# Altium schematic symbol library KwantLib.SchLib: 323 symbols (part 1 of 3)
Pins are listed as number, name and electrical type; pins without a type are passive.

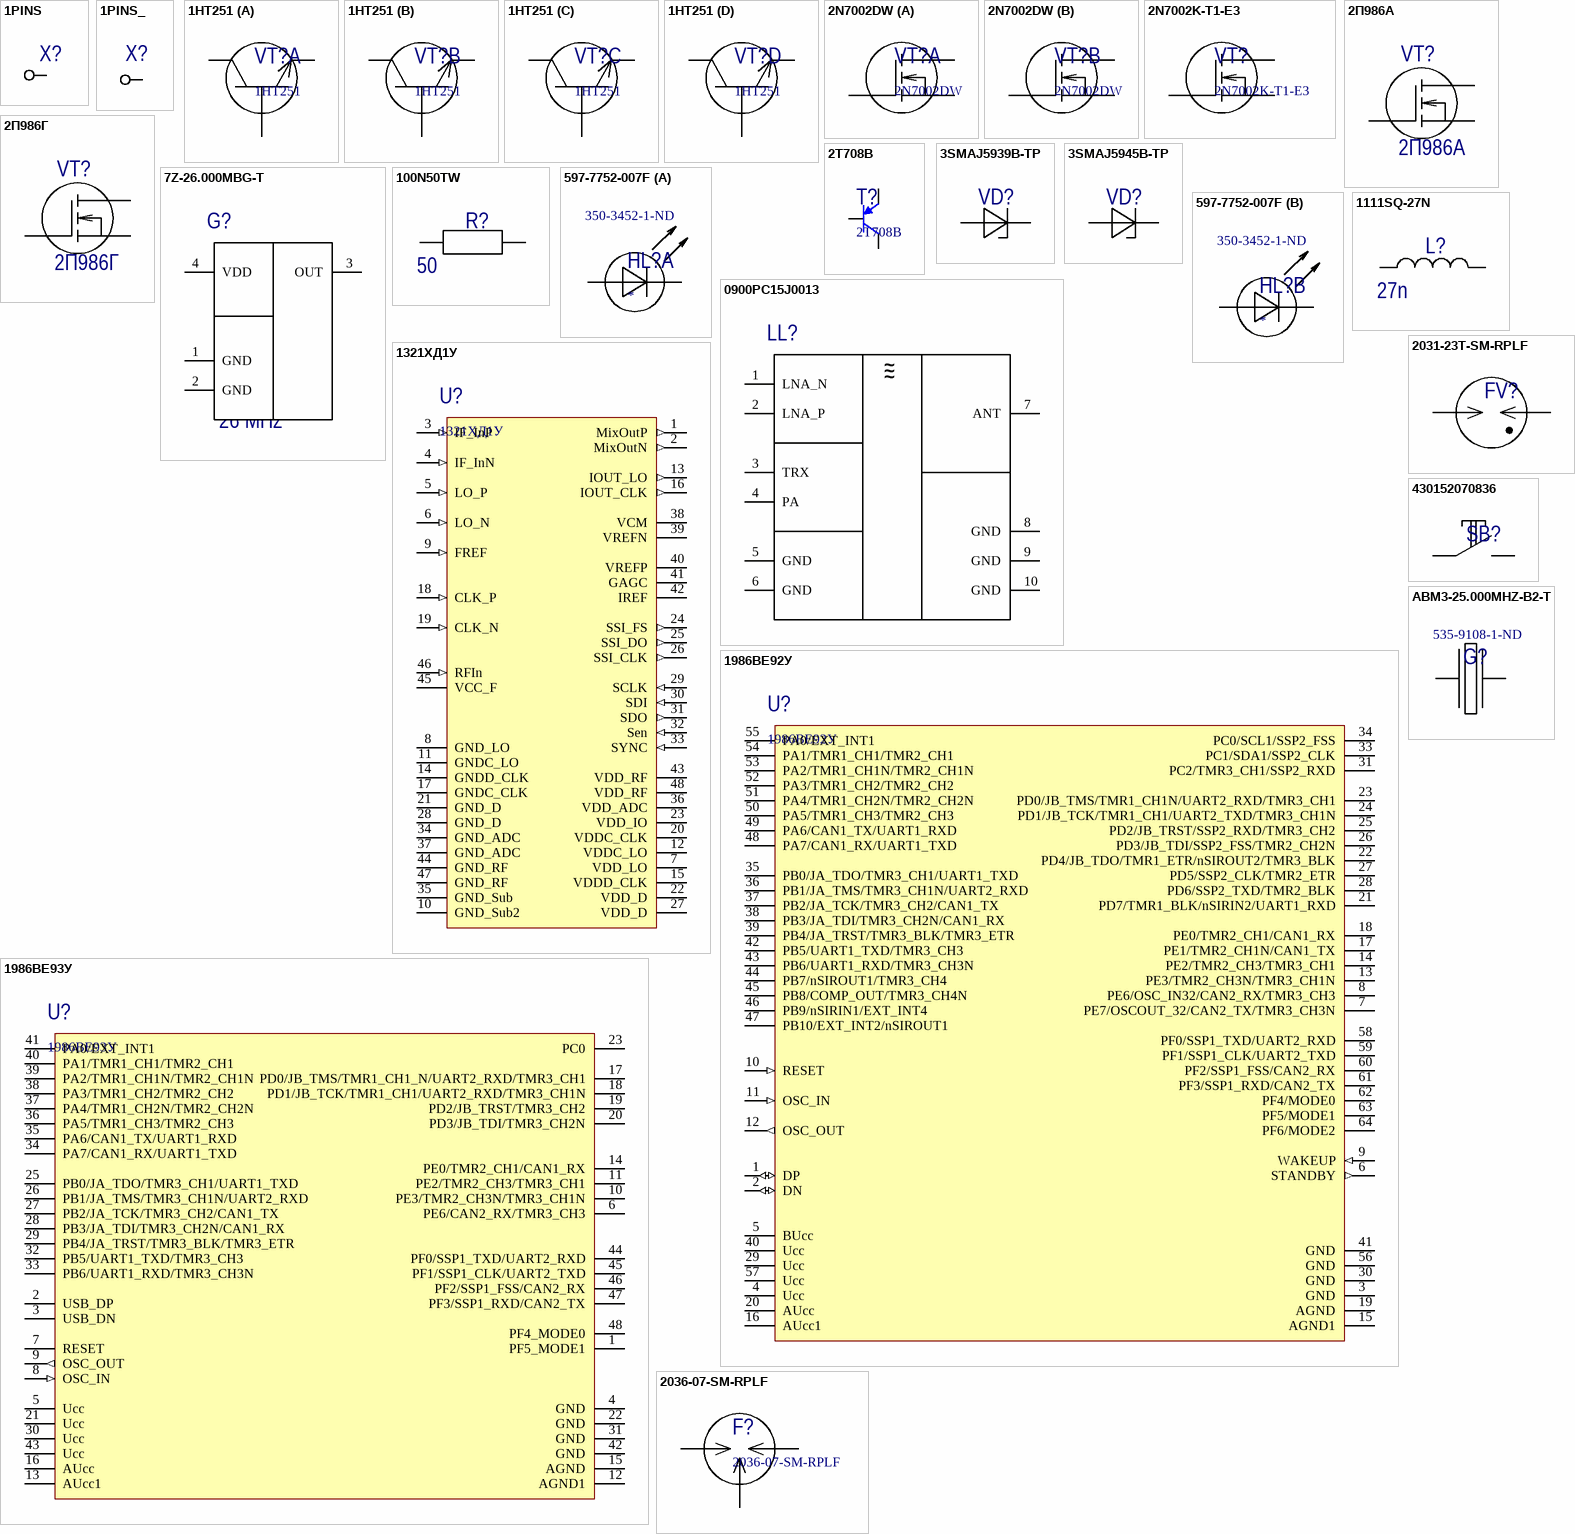
[diagram p0: symbols 1PINS to ABM3-25.000MHZ-B2-T]

## 1PINS
designator X?  (value not drawn)  (no BOM)
footprint 1Pin
pins: 1

## 1PINS_
designator X?  (value not drawn)
1PINS
footprint 1Pin
pins: 1

## 1НТ251
designator VT?
part A pins: 2 B, 12 E, 13 C
part B pins: 3 E, 4 C, 11 B
part C pins: 5 B, 9 E, 10 C
part D pins: 6 E, 7 C, 8 B

## 2N7002DW
designator VT?
Dual MOSFET N-channel; PartNo: *; Digikey: *; Supplier 1: Digi-Key; Supplier Part Number 1: 2N7002DWCT-ND
footprint SOT65P210X100-6N (SC70-6, SOT323, 6-Leads, Body 2.00x2.10mm, Pitch 0.65mm, IPC Medium Density)
part A pins: 3 D, 4 S, 5 G
part B pins: 1 S, 2 G, 6 D
1 alternate drawing of the same symbol

## 2N7002K-T1-E3
designator VT?
MOSFET N-channel; PartNo: *; Digikey: *; Supplier 1: Digi-Key; Supplier Part Number 1: 2N7002K-T1-E3TR-ND
footprint SOT95P232X100-3N (SOT23, 3-Leads, Body 2.92x2.32mm, Pitch 0.95mm, IPC Medium Density)
pins: 1 G, 2 S, 3 D
1 alternate drawing of the same symbol

## 2П986А
designator VT?
LDMOS N-channel; PartNo: *; Digikey: *
footprint КТ-55С-1
pins: 1 G, 3 D
1 alternate drawing of the same symbol

## 2П986Г
designator VT?
LDMOS N-channel; PartNo: *; Digikey: *
footprint КТ-57A-1
pins: 1 G, 3 D
1 alternate drawing of the same symbol

## 2Т708В
designator T?
Транзистор PNP; Производитель: ЗАО "ГРУППА КРЕМНИЙ ЭЛ"
footprint ТО-39 (Транзистор)
pins: 1 B, 2 C, 3 E

## 3SMAJ5939B-TP
designator VD?  (value not drawn)
DIODE ZENER 39V 3W DO214AC; Manufacturer: MCC; Tolerance: 5%; Impedance: 45R; Max Reverse Leakage Current: 1uA; Element Configuration: Single; Zener Current: 76mA; Supplier 1: Digi-Key; Manufacturer Part Number: 3SMAJ5939B-TP; Stock 1: 11870; Pricing 1: 1=0.56, 10=0.441, 25=0.372, 100=0.3028, 250=0.2509, 500=0.2076, 1000=0.1557, 2500=0.1428 (USD); Mount: Surface Mount; Case/Package: SMA; Number of Pins: 2; Min Operating Temperature: -55°C; Max Operating Temperature: 150°C; Package Quantity: 1; Packaging: Tape and Reel; Zener Voltage: 39V; Max Power Dissipation: 3W; Voltage Tolerance: 5%; Power Dissipation: 3W; ComponentLink1URL: http://www.mccsemi.com/up_pdf/3SMAJ5913B~3SMAJ5943B(DO-214AC).pdf?src-supplier=Digi-Key; ComponentLink1Description: http://www.mccsemi.com/up_pdf/3SMAJ5913B~3SMAJ5943B(DO-214AC).pdf?src-supplier=Digi-Key; Supplier Part Number 1: 3SMAJ5939B-TPMSCT-ND
footprint DIOM4326X26N (Molded Diode, 2-Leads, Body 4,30x2,61mm, IPC Medium Density)
pins: 1, 2

## 3SMAJ5945B-TP
designator VD?  (value not drawn)
DIODE ZENER 68V 3W DO214AC; Manufacturer: MCC; Tolerance: 5%; Impedance: 120R; Supplier 1: Digi-Key; Manufacturer Part Number: 3SMAJ5945B-TP; Stock 1: 9795; Pricing 1: 1=0.56, 10=0.441, 25=0.372, 100=0.3028, 250=0.2509, 500=0.2076, 1000=0.1557, 2500=0.1428 (USD); Mount: Surface Mount; Min Operating Temperature: -55°C; Max Operating Temperature: 150°C; Packaging: Tape and Reel; Package Quantity: 1; Zener Voltage: 68V; Max Power Dissipation: 3W; ComponentLink1URL: http://www.mccsemi.com/up_pdf/3SMAJ5913B~3SMAJ5956B(DO-214AC).pdf?src-supplier=Digi-Key; ComponentLink1Description: http://www.mccsemi.com/up_pdf/3SMAJ5913B~3SMAJ5956B(DO-214AC).pdf?src-supplier=Digi-Key; Supplier Part Number 1: 3SMAJ5945B-TPMSCT-ND
footprint DIOM4326X26N (Molded Diode, 2-Leads, Body 4,30x2,61mm, IPC Medium Density)
pins: 1, 2

## 7Z-26.000MBG-T
designator G?  value 26 MHz  (hidden comment: 7Z-26.000MBG-T)
TCXO 26 MHz; PartNo: 7Z-26.000MBG-T; Supplier 1: Digi-Key; Supplier Part Number 1: 887-1620-1-ND
footprint 7Z TCXO (Footprint not found)
pins: 1 GND, 2 GND, 3 OUT, 4 VDD

## 100N50TW
designator R?  value 50  (hidden comment: 100N50TW)
Flanged Termination 100 W, 50 Ohm; Type: *; PartNo: *; Supplier 1: *; Supplier Part Number 1: *
footprint 100N50TW (Резистор 50 Ом СВЧ)
pins: 1

## 597-7752-007F
designator HL?  Supplier Part Number 1: 350-3452-1-ND
Светодиод двухцветный; PartNo: *; Digikey: *; Supplier 1: Digi-Key
footprint PLCC4-LED
part A pins: 1 A1, 2 C1
part B pins: 3 A2, 4 C2

## 0900PC15J0013
designator LL?  (value not drawn)
CC12xx balun; PartNo: 0900PC15J0013; Supplier 1: Digi-Key; Supplier Part Number 1: *
footprint 0900PC15J0013
pins: 1 LNA_N, 2 LNA_P, 3 TRX, 4 PA, 5 GND, 6 GND, 7 ANT, 8 GND, 9 GND, 10 GND
text: ~

## 1111SQ-27N
designator L?  value 27n  (hidden comment: 1111SQ-27N)
Square Air Core Inductor; Tolerance: ±5%; Current: *; PartNo: 1111SQ-27N; Supplier 1: Digi-Key
footprint 1111SQ-27n (Square Air Core Inductor - 27 nH)
pins: 1, 2

## 1321ХД1У
designator U?
Микросхема РЧ/ПЧ приемника; Производитель: АО "ПКК Миландр"
footprint 5142.48-A
pins: 1 MixOutP (out), 2 MixOutN (out), 3 IF_InP (in), 4 IF_InN (in), 5 LO_P (in), 6 LO_N (in), 7 VDD_LO (power), 8 GND_LO (power), 9 FREF (in), 10 GND_Sub2 (power), 11 GNDC_LO (power), 12 VDDC_LO (power), 13 IOUT_LO (out), 14 GNDD_CLK (power), 15 VDDD_CLK (power), 16 IOUT_CLK (out), 17 GNDC_CLK (power), 18 CLK_P (in), 19 CLK_N (in), 20 VDDC_CLK (power), 21 GND_D (power), 22 VDD_D (power), 23 VDD_IO (power), 24 SSI_FS (out), 25 SSI_DO (out), 26 SSI_CLK (out), 27 VDD_D (power), 28 GND_D (power), 29 SCLK (in), 30 SDI (in), 31 SDO (out), 32 Sen (in), 33 SYNC (in), 34 GND_ADC (power), 35 GND_Sub (power), 36 VDD_ADC (power), 37 GND_ADC (power), 38 VCM, 39 VREFN, 40 VREFP, 41 GAGC, 42 IREF, 43 VDD_RF (power), 44 GND_RF (power), 45 VCC_F, 46 RFIn (in), 47 GND_RF (power), 48 VDD_RF (power)

## 1986ВЕ92У
designator U?
Микросхема 32-разрядного однокристального микро-ЭВМ с памятью Flash-типа; Производитель: АО "ПКК Миландр"
footprint Н18.64-1В
pins: 1 DP (io), 2 DN (io), 3 GND (power), 4 Ucc (power), 5 BUcc (power), 6 STANDBY (out), 7 PE7/OSCOUT_32/CAN2_TX/TMR3_CH3N, 8 PE6/OSC_IN32/CAN2_RX/TMR3_CH3, 9 WAKEUP (in), 10 RESET (in), 11 OSC_IN (in), 12 OSC_OUT (out), 13 PE3/TMR2_CH3N/TMR3_CH1N, 14 PE2/TMR2_CH3/TMR3_CH1, 15 AGND1 (power), 16 AUcc1 (power), 17 PE1/TMR2_CH1N/CAN1_TX, 18 PE0/TMR2_CH1/CAN1_RX, 19 AGND (power), 20 AUcc (power), 21 PD7/TMR1_BLK/nSIRIN2/UART1_RXD, 22 PD4/JB_TDO/TMR1_ETR/nSIROUT2/TMR3_BLK, 23 PD0/JB_TMS/TMR1_CH1N/UART2_RXD/TMR3_CH1, 24 PD1/JB_TCK/TMR1_CH1/UART2_TXD/TMR3_CH1N, 25 PD2/JB_TRST/SSP2_RXD/TMR3_CH2, 26 PD3/JB_TDI/SSP2_FSS/TMR2_CH2N, 27 PD5/SSP2_CLK/TMR2_ETR, 28 PD6/SSP2_TXD/TMR2_BLK, 29 Ucc (power), 30 GND (power), 31 PC2/TMR3_CH1/SSP2_RXD, 32 NC hidden, 33 PC1/SDA1/SSP2_CLK, 34 PC0/SCL1/SSP2_FSS, 35 PB0/JA_TDO/TMR3_CH1/UART1_TXD, 36 PB1/JA_TMS/TMR3_CH1N/UART2_RXD, 37 PB2/JA_TCK/TMR3_CH2/CAN1_TX, 38 PB3/JA_TDI/TMR3_CH2N/CAN1_RX, 39 PB4/JA_TRST/TMR3_BLK/TMR3_ETR, 40 Ucc (power), 41 GND (power), 42 PB5/UART1_TXD/TMR3_CH3, 43 PB6/UART1_RXD/TMR3_CH3N, 44 PB7/nSIROUT1/TMR3_CH4, 45 PB8/COMP_OUT/TMR3_CH4N, 46 PB9/nSIRIN1/EXT_INT4, 47 PB10/EXT_INT2/nSIROUT1, 48 PA7/CAN1_RX/UART1_TXD, 49 PA6/CAN1_TX/UART1_RXD, 50 PA5/TMR1_CH3/TMR2_CH3, 51 PA4/TMR1_CH2N/TMR2_CH2N, 52 PA3/TMR1_CH2/TMR2_CH2, 53 PA2/TMR1_CH1N/TMR2_CH1N, 54 PA1/TMR1_CH1/TMR2_CH1, 55 PA0/EXT_INT1, 56 GND (power), 57 Ucc (power), 58 PF0/SSP1_TXD/UART2_RXD, 59 PF1/SSP1_CLK/UART2_TXD, 60 PF2/SSP1_FSS/CAN2_RX, 61 PF3/SSP1_RXD/CAN2_TX, 62 PF4/MODE0, 63 PF5/MODE1, 64 PF6/MODE2

## 1986ВЕ93У
designator U?
Микросхема 32-разрядного однокристального микро-ЭВМ с памятью Flash-типа; Производитель: АО "ПКК Миландр"
footprint Н16.48-1В
pins: 1 PF5_MODE1, 2 USB_DP, 3 USB_DN, 4 GND (power), 5 Ucc (power), 6 PE6/CAN2_RX/TMR3_CH3, 7 RESET, 8 OSC_IN (in), 9 OSC_OUT (out), 10 PE3/TMR2_CH3N/TMR3_CH1N, 11 PE2/TMR2_CH3/TMR3_CH1, 12 AGND1 (power), 13 AUcc1 (power), 14 PE0/TMR2_CH1/CAN1_RX, 15 AGND (power), 16 AUcc (power), 17 PD0/JB_TMS/TMR1_CH1_N/UART2_RXD/TMR3_CH1, 18 PD1/JB_TCK/TMR1_CH1/UART2_RXD/TMR3_CH1N, 19 PD2/JB_TRST/TMR3_CH2, 20 PD3/JB_TDI/TMR3_CH2N, 21 Ucc (power), 22 GND (power), 23 PC0, 24 NC hidden, 25 PB0/JA_TDO/TMR3_CH1/UART1_TXD, 26 PB1/JA_TMS/TMR3_CH1N/UART2_RXD, 27 PB2/JA_TCK/TMR3_CH2/CAN1_TX, 28 PB3/JA_TDI/TMR3_CH2N/CAN1_RX, 29 PB4/JA_TRST/TMR3_BLK/TMR3_ETR, 30 Ucc (power), 31 GND (power), 32 PB5/UART1_TXD/TMR3_CH3, 33 PB6/UART1_RXD/TMR3_CH3N, 34 PA7/CAN1_RX/UART1_TXD, 35 PA6/CAN1_TX/UART1_RXD, 36 PA5/TMR1_CH3/TMR2_CH3, 37 PA4/TMR1_CH2N/TMR2_CH2N, 38 PA3/TMR1_CH2/TMR2_CH2, 39 PA2/TMR1_CH1N/TMR2_CH1N, 40 PA1/TMR1_CH1/TMR2_CH1, 41 PA0/EXT_INT1, 42 GND (power), 43 Ucc (power), 44 PF0/SSP1_TXD/UART2_RXD, 45 PF1/SSP1_CLK/UART2_TXD, 46 PF2/SSP1_FSS/CAN2_RX, 47 PF3/SSP1_RXD/CAN2_TX, 48 PF4_MODE0

## 2031-23T-SM-RPLF
designator FV?  (value not drawn)
Разрядник 185В; PartNo: 2031-23T-SM-RPLF; Digikey: *; Supplier 1: Digi-Key; Supplier Part Number 1: 2031-23T-SM-RPLFCT-ND
footprint GDT-2031 (Bourns GDT 2031)
pins: 1, 2

## 2036-07-SM-RPLF
designator F?
Разрядник 75В; PartNo: 2036-07-SM-RPLF; Digikey: *; Supplier 1: Digi-Key; Supplier Part Number 1: 2036-07-SM-RPLFCT-ND
footprint GDT-2036 (Bourns GDT 2036)
pins: 1, 2, 3

## 430152070836
designator SB?  (value not drawn)
Кнопка Wurth
footprint 4301x20708x6 (6*6mm vertical type, SMD, height 7.0mm, white actuator, 260gf, T&R)
pins: 1, 2

## ABM3-25.000MHZ-B2-T
designator G?  Supplier Part Number 1: 535-9108-1-ND  (hidden comment: ABM3-25.000MHZ-B2-T)
Кварц 25 МГц; PartNo: *; Digikey: *; Supplier 1: Digi-Key
footprint ABM3
pins: 1, 2

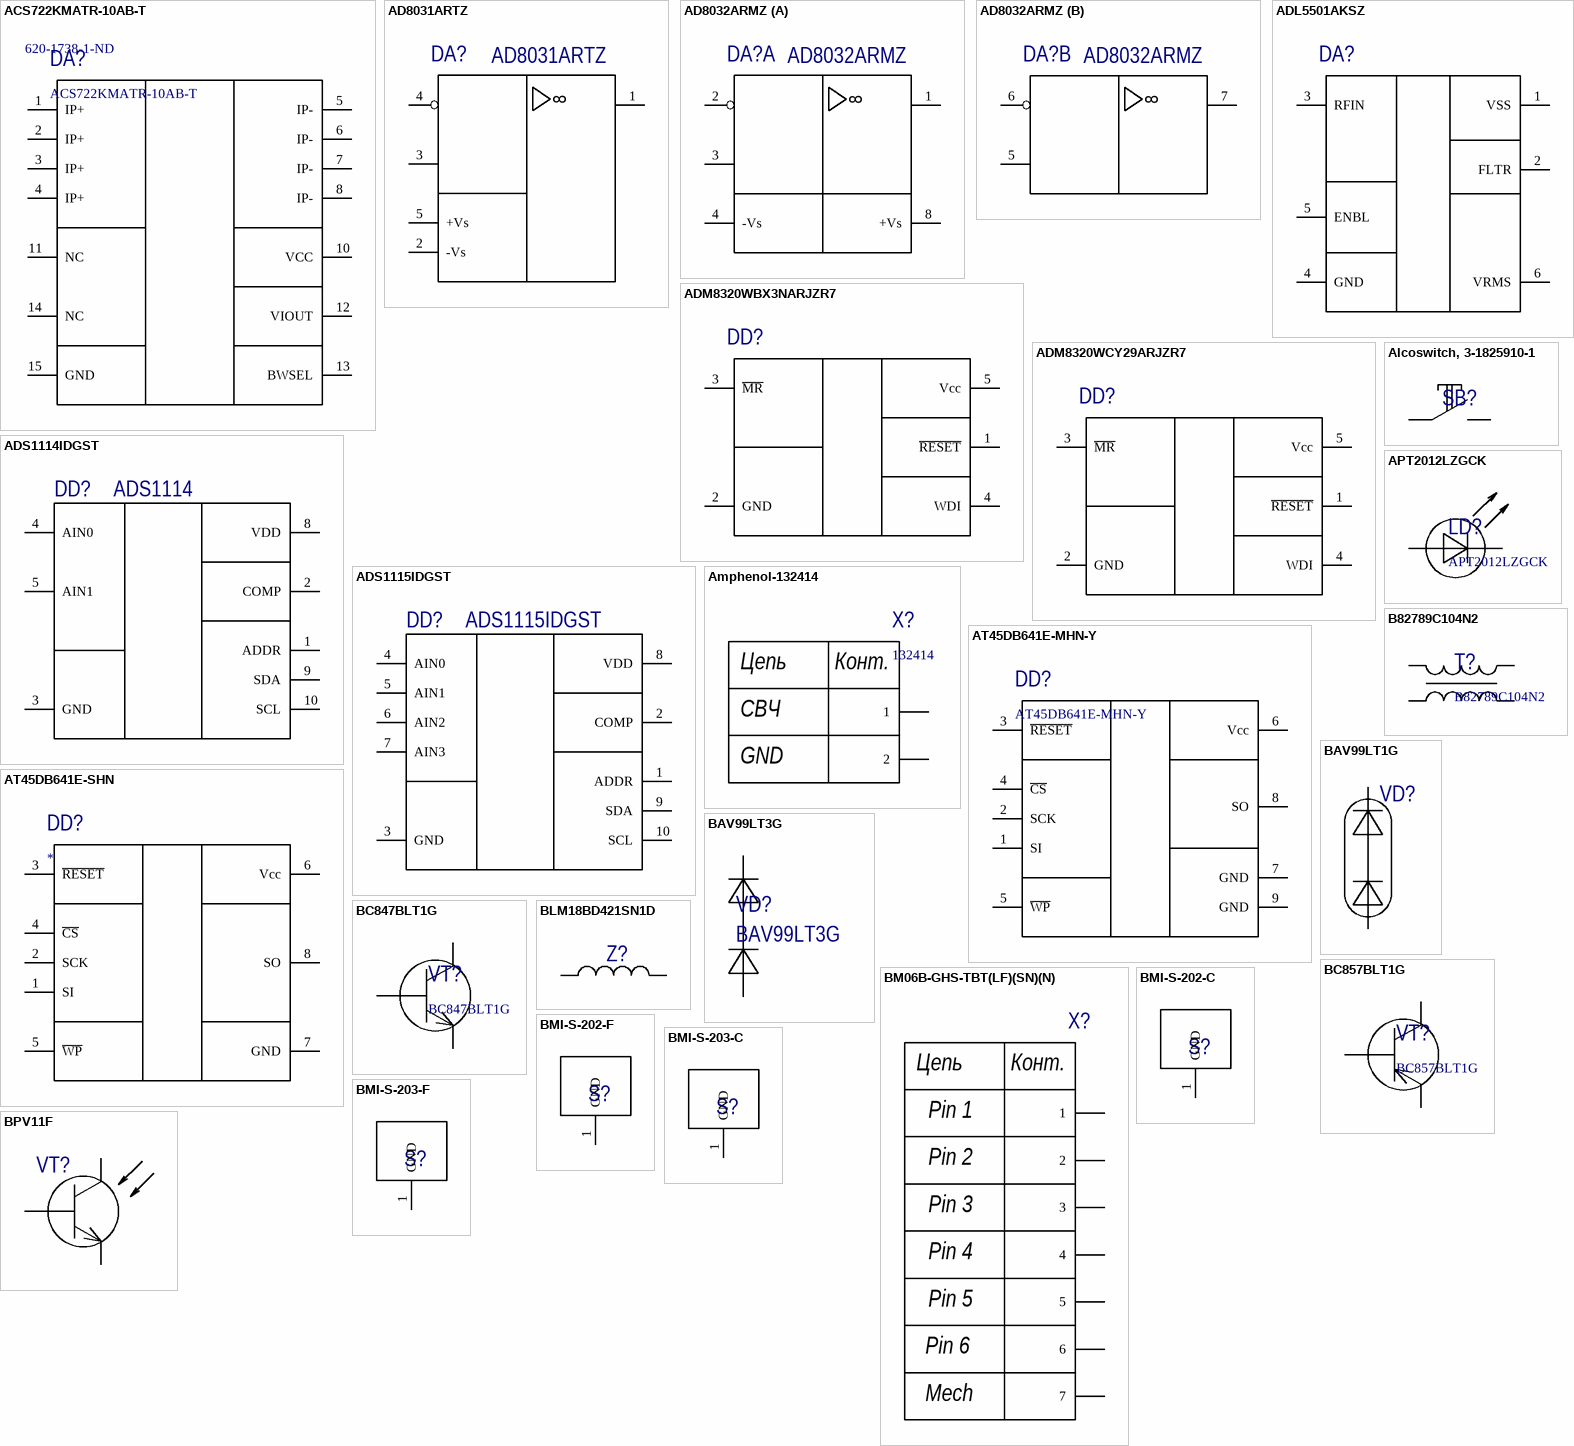
[diagram p1: symbols ACS722KMATR-10AB-T to BPV11F]

## ACS722KMATR-10AB-T
designator DA?  Supplier Part Number 1: 620-1738-1-ND
Current sensor 10A; PartNo: *; Digikey: *; Supplier 1: Digi-Key
footprint SOIC127P1030X265-16N (SOIC, 16-Leads, Body 10.30x7.50mm, Pitch 1.27mm, IPC Medium Density)
pins: 1 IP+, 2 IP+, 3 IP+, 4 IP+, 5 IP-, 6 IP-, 7 IP-, 8 IP-, 10 VCC, 11 NC, 12 VIOUT, 13 BWSEL, 14 NC, 15 GND

## AD8031ARTZ
designator DA?
RtR micropower OpAmp; PartNo: *; Supplier 1: Digi-Key; Supplier Part Number 1: AD8031ARTZ-REEL7CT-ND
footprint SOT95P280X100-5N (SOT23, 5-Leads, Body 2.90x2.80mm, Pitch 0.95mm, IPC Medium Density)
pins: 1 OUT, 2 -Vs, 3 IN+, 4 IN-, 5 +Vs
text: 8

## AD8032ARMZ
designator DA?
RtR micropower OpAmp; PartNo: *; Supplier 1: Digi-Key; Supplier Part Number 1: AD8032ARMZ-REEL7CT-ND
footprint TSOP65P490X86-8N (TSOP, 8-Leads, Body 3.00x3.00mm, Pitch 0.65mm, IPC Medium Density)
part A pins: 1 OUT, 2 1IN-, 3 1IN+, 4 -Vs, 8 +Vs
part B pins: 5 2IN+, 6 2IN-, 7 2OUT

## ADL5501AKSZ
designator DA?, comment ADL5501AKSZ-R7  (value not drawn)
50 MHz - 6 GHz power meter; PartNo: ADL5501AKSZ-R7; Supplier 1: Digi-Key; Supplier Part Number 1: ADL5501AKSZ-R7CT-ND
footprint SOT65P210X100-6N (SC70-6, SOT323, 6-Leads, Body 2.00x2.10mm, Pitch 0.65mm, IPC Medium Density)
pins: 1 VSS (power), 2 FLTR, 3 RFIN, 4 GND (power), 5 ENBL, 6 VRMS

## ADM8320WBX3NARJZR7
designator DD?  (value not drawn)
Supervisor with Watchdog. Reset - 28 ms, Watchdog 102 ms. Voltage 3.18 V.
footprint SOT95P280X145-5N (SOT23, 5-Leads, Body 2.90x2.80mm, Pitch 0.95mm, IPC Medium Density)
pins: 1 ~{RESET}, 2 GND, 3 ~{MR}, 4 WDI, 5 Vcc

## ADM8320WCY29ARJZR7
designator DD?  (value not drawn)
Supervisor with Watchdog. Reset - 200 ms, Watchdog 1.6 s. Voltage 2.9 V.
footprint SOT95P280X145-5N (SOT23, 5-Leads, Body 2.90x2.80mm, Pitch 0.95mm, IPC Medium Density)
pins: 1 ~{RESET}, 2 GND, 3 ~{MR}, 4 WDI, 5 Vcc

## ADS1114IDGST
designator DD?, comment ADS1114
PartNo: ADS1114IDGST; Supplier 1: Digi-Key; Supplier Part Number 1: 296-24932-1-ND
footprint TSSOP50P490X110-10N (TSSOP, 10-Leads, Body 3.00x3.00mm, Pitch 0.50mm, IPC Medium Density)
pins: 1 ADDR, 2 COMP, 3 GND, 4 AIN0, 5 AIN1, 8 VDD, 9 SDA, 10 SCL

## ADS1115IDGST
designator DD?
PartNo: ADS1115IDGST; Supplier 1: Digi-Key; Supplier Part Number 1: 296-24934-1-ND
pins: 1 ADDR, 2 COMP, 3 GND, 4 AIN0, 5 AIN1, 6 AIN2, 7 AIN3, 8 VDD, 9 SDA, 10 SCL

## Alcoswitch, 3-1825910-1
designator SB?, comment 3-1825910-1  (value not drawn)
Alcoswitch, 6x6 mm SMD; PartNo: 3-1825910-1; Supplier 1: Digi-Key; Supplier Part Number 1: 450-1643-ND
footprint Alcoswitch, 3-1825910-1 (6*6mm vertical type, THT, height 17 mm, 160gf, Bulk)
pins: 1, 2

## Amphenol-132414
designator X?, comment 132414
SMA edge connector; PartNo: 132414; Supplier 1: Digi-Key; Supplier Part Number 1: ACX1917-ND; Type: Edge
footprint Amphenol-132414 (SMA Edge connector)
pins: 1, 2
text: Цепь; Конт.; СВЧ; GND

## APT2012LZGCK
designator LD?
LED SMD; PartNo: APT2012LZGCK; Supplier 1: Digi-Key; Supplier Part Number 1: 754-1939-1-ND
footprint LED2012N (Chip Diode, 2-Leads, Body 2.00x1.25mm, IPC Medium Density)
pins: 1, 2
1 alternate drawing of the same symbol

## AT45DB641E-MHN-Y
designator DD?
64-Mbit DataFlash; PartNo: AT45DB641E-MHN-Y; Digikey: *; Supplier 1: Digi-Key; Supplier Part Number 1: 1265-1227-ND
footprint QFN127P600X500X60_HS-9N (QFN, 8-Leads, Body 6.00x5.00mm, Pitch 1.27mm, Thermal Pad 3.40x4.00mm, IPC Medium Density)
pins: 1 SI, 2 SCK, 3 ~{RESET}, 4 ~{CS}, 5 ~{WP}, 6 Vcc (power), 7 GND (power), 8 SO, 9 GND (power)

## AT45DB641E-SHN
designator DD?
64-Mbit DataFlash; PartNo: *; Digikey: *; Supplier 1: Digi-Key; Supplier Part Number 1: AT45DB641E-SHN-TCT-ND
footprint SOIC127P800X200-8N (SOIC, 8-Leads, Body 5.34x5.29mm, Pitch 1.27mm, IPC Medium Density)
pins: 1 SI, 2 SCK, 3 ~{RESET}, 4 ~{CS}, 5 ~{WP}, 6 Vcc (power), 7 GND (power), 8 SO

## B82789C104N2
designator T?
Фильтр CAN; PartNo: B82789C104N2; Digikey: *; Supplier 1: Digi-Key; Supplier Part Number 1: 495-5751-1-ND
footprint SIMDAD (Data and signal line choke)
pins: 1, 2, 3, 4

## BAV99LT1G
designator VD?  (value not drawn)
Series Diodes; РКД Наименование: BAV99LT1G сдвоенный переключательный диод; PartNo: BAV99LT1G; Supplier 1: Digi-Key; Supplier Part Number 1: BAV99LT1GOSCT-ND
footprint SOT95P232X100-3N (SOT23, 3-Leads, Body 2.92x2.32mm, Pitch 0.95mm, IPC Medium Density)
pins: 1, 2, 3
1 alternate drawing of the same symbol

## BAV99LT3G
designator VD?
Series Diodes; PartNo: BAV99LT3G; Supplier 1: Digi-Key; Supplier Part Number 1: BAV99LT3GOSCT-ND
footprint SOT95P232X100-3N (SOT23, 3-Leads, Body 2.92x2.32mm, Pitch 0.95mm, IPC Medium Density)
pins: 1, 2, 3
1 alternate drawing of the same symbol

## BC847BLT1G
designator VT?
General Purpose Transistor NPN; PartNo: BC847BLT1G; Supplier 1: Digi-Key; Supplier Part Number 1: BC847BLT1GOSCT-ND
footprint SOT95P232X100-3N (SOT23, 3-Leads, Body 2.92x2.32mm, Pitch 0.95mm, IPC Medium Density); pin to pad B>1 C>3 E>2
pins: B, C, E

## BC857BLT1G
designator VT?
General Purpose Transistor PNP; PartNo: BC857BLT1G; Supplier 1: Digi-Key; Supplier Part Number 1: BC857BLT1GOSCT-ND
footprint SOT95P232X100-3N (SOT23, 3-Leads, Body 2.92x2.32mm, Pitch 0.95mm, IPC Medium Density)
pins: 1 B, 2 E, 3 C

## BLM18BD421SN1D
designator Z?  (value not drawn)
EMI choke; Value: 1; Tolerance: 5%; Current: *; PartNo: *; Supplier 1: Digi-Key; Supplier Part Number 1: 490-5259-1-ND
footprint INDC1608X08N (Chip Inductor, 2-Leads, Body 1.60x0.80mm, IPC Medium Density)
pins: 1, 2

## BM06B-GHS-TBT(LF)(SN)(N)
designator X?  (value not drawn)
CONN HEADER SMD 6POS 1.25MM; Manufacturer: JST; Manufacturer Part Number: BM06B-GHS-TBT(LF)(SN)(N); Max Current Rating: 1A; Contact Resistance: 50mR; Number of Positions: 6; Max Voltage Rating (AC): 50V; Connector Type: Outer Shroud Contact; Pitch: 0.049inch; Supplier 1: Digi-Key; Stock 1: 27391; Pricing 1: 1=0.56, 10=0.524, 100=0.4019, 500=0.3495, 1000=0.2883 (USD); Mount: Surface Mount; Color: Natural; Contact Plating: Tin,Copper; Contact Material: Bronze; Housing Color: Beige; Housing Material: Polyamide; Min Operating Temperature: -25°C; Max Operating Temperature: 85°C; Number of Rows: 1; Fastening Type: Ramp; Packaging: Tape and Reel; Termination: Solder; Orientation: Straight; Length: 10.75mm; Depth: 4.25mm; Lead Free: Lead Free; ComponentLink1URL: http://www.jst-mfg.com/product/pdf/eng/eGH.pdf?src-supplier=Digi-Key; ComponentLink1Description: http://www.jst-mfg.com/product/pdf/eng/eGH.pdf?src-supplier=Digi-Key; Supplier Part Number 1: 455-1582-6-ND
footprint BM06B-GH 1Pin (BM06B-GH С правильным расположением выводов)
pins: 1, 2, 3, 4, 5, 6, 7
text: Цепь; Конт.; Pin 1; Pin 2; Pin 3; Pin 4; Pin 5; Pin 6; Mech

## BMI-S-202-C
designator S?  (value not drawn)
EMI Shield Крышка; PartNo: BMI-S-202-C; Supplier 1: Digi-Key; Supplier Part Number 1: 903-1014-ND
pins: 1 GND

## BMI-S-202-F
designator S?  (value not drawn)
EMI Shield Основание; PartNo: BMI-S-202-F; Supplier 1: Digi-Key; Supplier Part Number 1: 903-1051-1-ND
footprint BMI-S-202-F (EMI Shield)
pins: 1 GND

## BMI-S-203-C
designator S?  (value not drawn)  (mechanical)
EMI Shield Крышка; PartNo: BMI-S-203-C; Supplier 1: Digi-Key; Supplier Part Number 1: 903-1015-ND
pins: 1 GND

## BMI-S-203-F
designator S?  (value not drawn)
EMI Shield Основание 26x26 мм; PartNo: BMI-S-203-F; Supplier 1: Digi-Key; Supplier Part Number 1: 903-1052-1-ND
footprint BMI-S-203-F (EMI Shield)
pins: 1 GND

## BPV11F
designator VT?, comment BC847BLT1G  (value not drawn)
Phototransistor NPN; PartNo: BC847BLT1G; Supplier 1: Digi-Key; Supplier Part Number 1: BC847BLT1GOSCT-ND
footprint T1-3/4 (5 mm) center 1.27 (LED Throuh hole, 5mm dia)
pins: 1, 2, 3

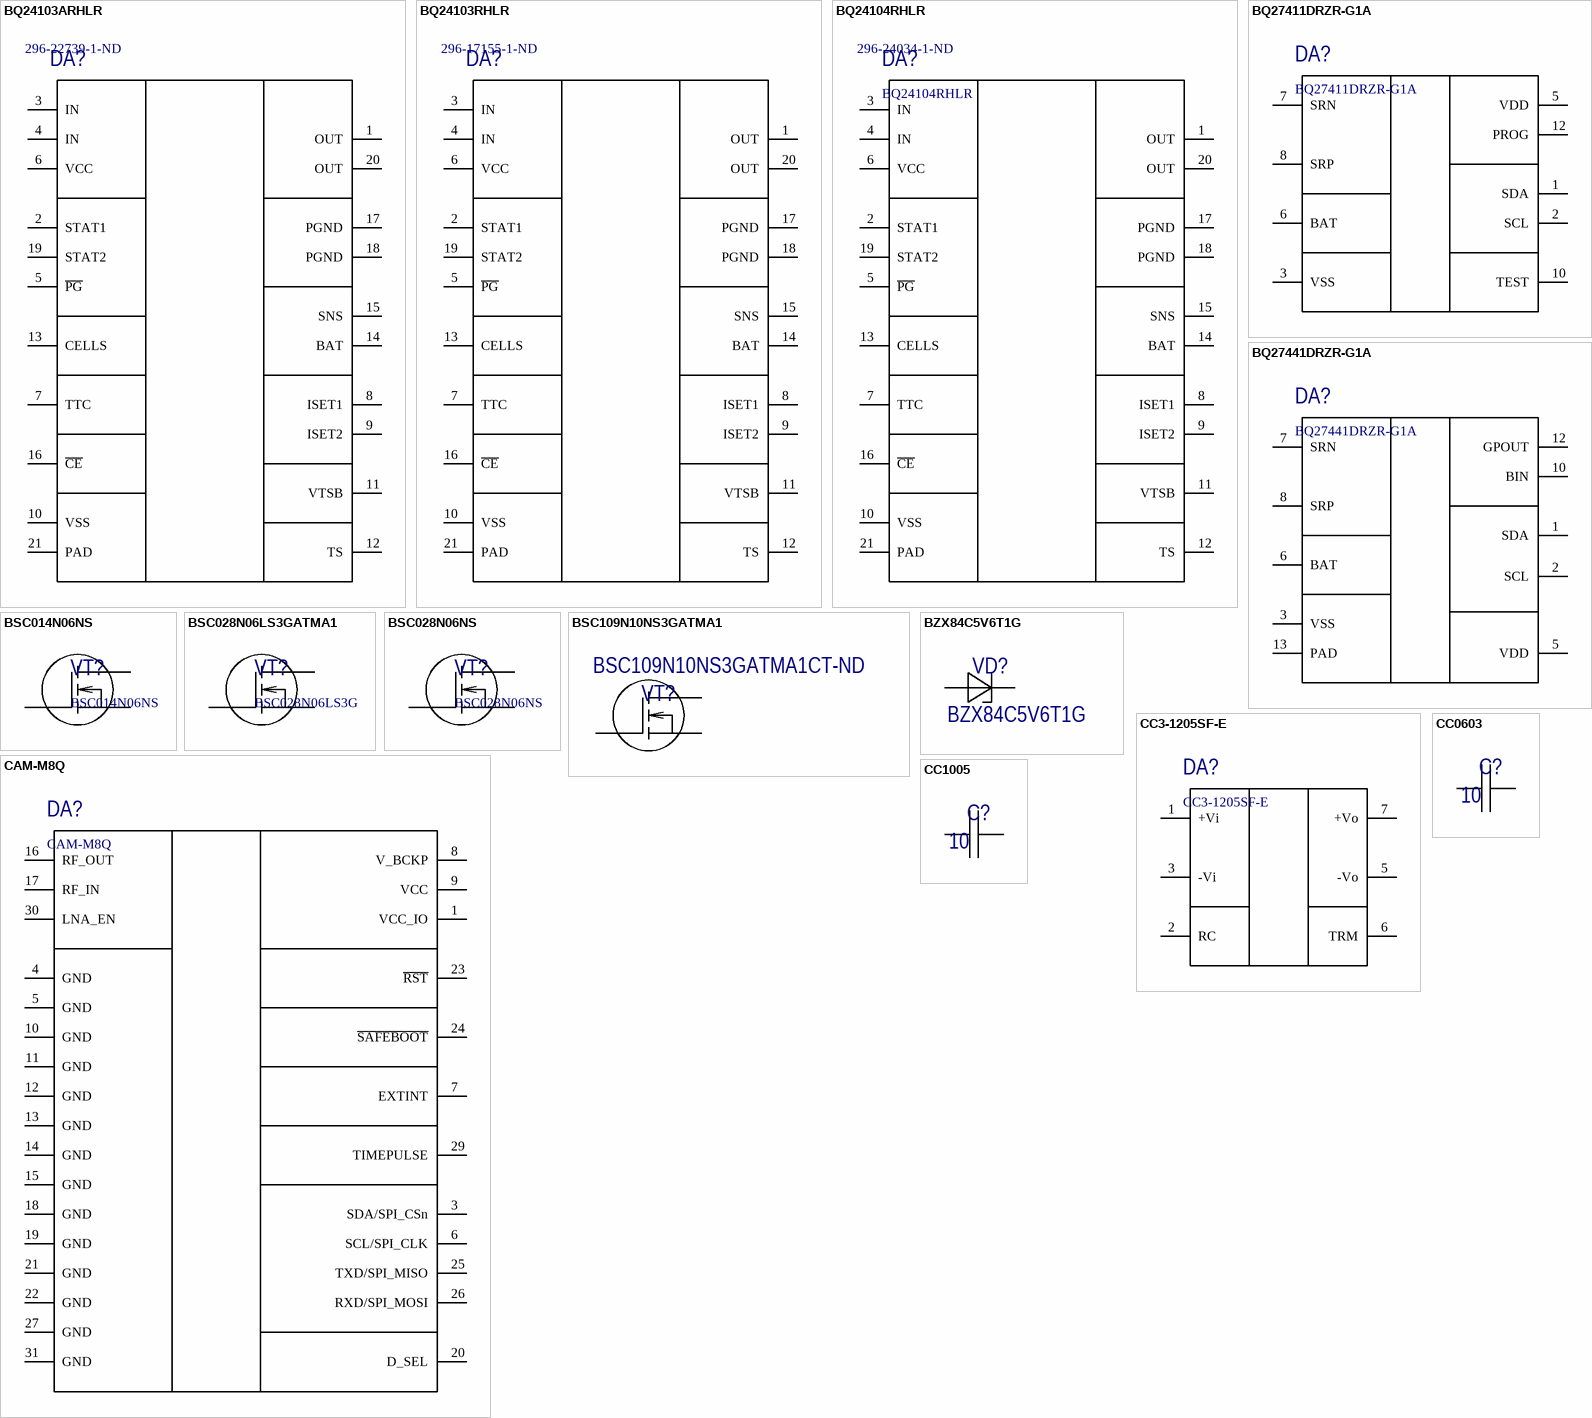
[diagram p2: symbols BQ24103ARHLR to CC1005]

## BQ24103ARHLR
designator DA?  Supplier Part Number 1: 296-22739-1-ND  (hidden comment: BQ24103ARHLR)
Standalone batarey charger; PartNo: *; Supplier 1: Digi-Key
footprint R-PVQFN-N20
pins: 1 OUT, 2 STAT1, 3 IN, 4 IN, 5 ~{PG}, 6 VCC, 7 TTC, 8 ISET1, 9 ISET2, 10 VSS, 11 VTSB, 12 TS, 13 CELLS, 14 BAT, 15 SNS, 16 ~{CE}, 17 PGND, 18 PGND, 19 STAT2, 20 OUT, 21 PAD

## BQ24103RHLR
designator DA?  Supplier Part Number 1: 296-17155-1-ND  (hidden comment: BQ24103RHLR)
Standalone batarey charger; PartNo: *; Supplier 1: Digi-Key
footprint R-PVQFN-N20
pins: 1 OUT, 2 STAT1, 3 IN, 4 IN, 5 ~{PG}, 6 VCC, 7 TTC, 8 ISET1, 9 ISET2, 10 VSS, 11 VTSB, 12 TS, 13 CELLS, 14 BAT, 15 SNS, 16 ~{CE}, 17 PGND, 18 PGND, 19 STAT2, 20 OUT, 21 PAD

## BQ24104RHLR
designator DA?  Supplier Part Number 1: 296-24034-1-ND
Standalone batarey charger; PartNo: *; Supplier 1: Digi-Key
footprint R-PVQFN-N20
pins: 1 OUT, 2 STAT1, 3 IN, 4 IN, 5 ~{PG}, 6 VCC, 7 TTC, 8 ISET1, 9 ISET2, 10 VSS, 11 VTSB, 12 TS, 13 CELLS, 14 BAT, 15 SNS, 16 ~{CE}, 17 PGND, 18 PGND, 19 STAT2, 20 OUT, 21 PAD

## BQ27411DRZR-G1A
designator DA?
Single Cell Li-Ion Battery Fuel Gauge; PartNo: BQ27411DRZR-G1A; Supplier 1: Digi-Key; Supplier Part Number 1: 296-39935-1-ND
footprint BQ27411_PDSO
pins: 1 SDA, 2 SCL, 3 VSS (power), 5 VDD, 6 BAT, 7 SRN, 8 SRP, 10 TEST, 12 PROG

## BQ27441DRZR-G1A
designator DA?
Single Cell Li-Ion Battery Fuel Gauge; PartNo: BQ27441DRZR-G1A; Supplier 1: Digi-Key; Supplier Part Number 1: 296-39941-1-ND
footprint BQ27411_PDSO
pins: 1 SDA, 2 SCL, 3 VSS (power), 5 VDD, 6 BAT, 7 SRN, 8 SRP, 10 BIN, 12 GPOUT, 13 PAD (power)

## BSC014N06NS
designator VT?
MOSFET N-channel; PartNo: BSC014N06NS; Supplier 1: Digi-Key; Supplier Part Number 1: BSC014N06NSCT-ND
footprint PG-TDSON-8 FL (Infenion power MOSFET)
pins: 1 G, 2 S, 3 D
1 alternate drawing of the same symbol

## BSC028N06LS3GATMA1
designator VT?, comment BSC028N06LS3G
MOSFET N-channel; Current: 100A; Voltage: 60V; PartNo: BSC028N06LS3G; Supplier 1: Digi-Key; Supplier Part Number 1: BSC028N06LS3GATMA1CT-ND
footprint PG-TDSON-8 FL (Infenion power MOSFET)
pins: 1 G, 2 S, 3 D
1 alternate drawing of the same symbol

## BSC028N06NS
designator VT?
MOSFET N-channel; PartNo: BSC028N06NS; Supplier 1: Digi-Key; Supplier Part Number 1: BSC028N06NSCT-ND
footprint PG-TDSON-8 FL (Infenion power MOSFET)
pins: 1 G, 2 S, 3 D
1 alternate drawing of the same symbol

## BSC109N10NS3GATMA1
designator VT?, comment Supplier Part Number 1: BSC109N10NS3GATMA1CT-ND  (hidden comment: BSC109N10NS3)
MOSFET N-channel; Manufacturer: Infineon; Manufacturer Part Number: BSC109N10NS3GATMA1; Rise Time: 7ns; Continuous Drain Current (ID): 63A; Input Capacitance: 2.5nF; Max Power Dissipation: 78W; Turn-On Delay Time: 12ns; Turn-Off Delay Time: 19ns; Gate to Source Voltage (Vgs): 20V; Drain to Source Voltage (Vdss): 100V; Rds On Max: 10.9mR; Fall Time: 5ns; Number of Elements: 1; Threshold Voltage: 2.7V; Supplier 1: Digi-Key; Stock 1: 0; Pricing 1: 1=1.61, 10=1.425, 100=1.1259, 500=0.8731, 1000=0.6893 (USD); Mount: Surface Mount; Number of Pins: 8; Min Operating Temperature: -55°C; Max Operating Temperature: 150°C; Packaging: Tape and Reel; Power Dissipation: 78W; Max Dual Supply Voltage: 100V; REACH SVHC: No SVHC; Lead Free: Contains Lead; Halogen Free: Halogen Free; ComponentLink1URL: http://www.infineon.com/dgdl/BSC109N10NS3+Rev2.0.pdf?folderId=db3a304313b8b5a60113cee8763b02d7&fileId=db3a304327b897500128247bdae36f3f&src-supplier=Avnet; ComponentLink1Description: http://www.infineon.com/dgdl/BSC109N10NS3+Rev2.0.pdf?folderId=db3a304313b8b5a60113cee8763b02d7&fileId=db3a304327b897500128247bdae36f3f&src-supplier=Avnet
footprint PG-TDSON-8 FL (Infenion power MOSFET)
pins: 1 G, 2 S, 3 D
1 alternate drawing of the same symbol

## BZX84C5V6T1G
designator VD?
Zener Diode; Voltage: 5.6V; Supplier 1: Digi-Key
footprint SOT95P232X100-3N (SOT23, 3-Leads, Body 2.92x2.32mm, Pitch 0.95mm, IPC Medium Density)
pins: 1 A, 3 C

## CAM-M8Q
designator DA?
GNSS Module with Antenna; PartNo: CAM-M8Q; Digikey: *; Supplier 1: Digi-Key; Supplier Part Number 1: 672-1013-1-ND
footprint CAM-M8Q/C
pins: 1 VCC_IO, 3 SDA/SPI_CSn, 4 GND, 5 GND, 6 SCL/SPI_CLK, 7 EXTINT, 8 V_BCKP, 9 VCC, 10 GND, 11 GND, 12 GND, 13 GND, 14 GND, 15 GND, 16 RF_OUT, 17 RF_IN, 18 GND, 19 GND, 20 D_SEL, 21 GND, 22 GND, 23 ~{RST}, 24 ~{SAFEBOOT}, 25 TXD/SPI_MISO, 26 RXD/SPI_MOSI, 27 GND, 29 TIMEPULSE, 30 LNA_EN, 31 GND

## CC3-1205SF-E
designator DA?
DC-DC 12V - 5V; PartNo: CC3-1205SF-E; Supplier 1: Digi-Key; Supplier Part Number 1: 445-2470-ND
footprint CC3 DCDC (TDK Lambda DCDC, Type CC3)
pins: 1 +Vi, 2 RC, 3 -Vi, 5 -Vo, 6 TRM, 7 +Vo

## CC0603
designator C?  value 10  (hidden comment: CC0603)
Конденсатор 0.6х0.3 мм; Voltage: 50; РКД Наименование: CC0603M - NP0 - 50 V - 10 pF ±5%; Tolerance: ±5%; Type: *; PartNo: *; Supplier Part Number 1: *; Supplier 1: *; Manufacturer Part Number: *
footprint CAPC0603X02N (Chip Capacitor, 2-Leads, Body 0.60x0.30mm, IPC Medium Density)
pins: 1, 2

## CC1005
designator C?  value 10  (hidden comment: *)
Конденсатор 1.0x0.5 мм; Voltage: 50; Tolerance: ±5%; РКД Наименование: CC1005M - NP0 - 50 V - 10 pF ±5%; Type: *; PartNo: *; Supplier Part Number 1: *; Supplier 1: *; Manufacturer Part Number: *
footprint CAPC1005X05N (Chip Capacitor, 2-Leads, Body 1.00x0.50mm, IPC Medium Density)
pins: 1, 2

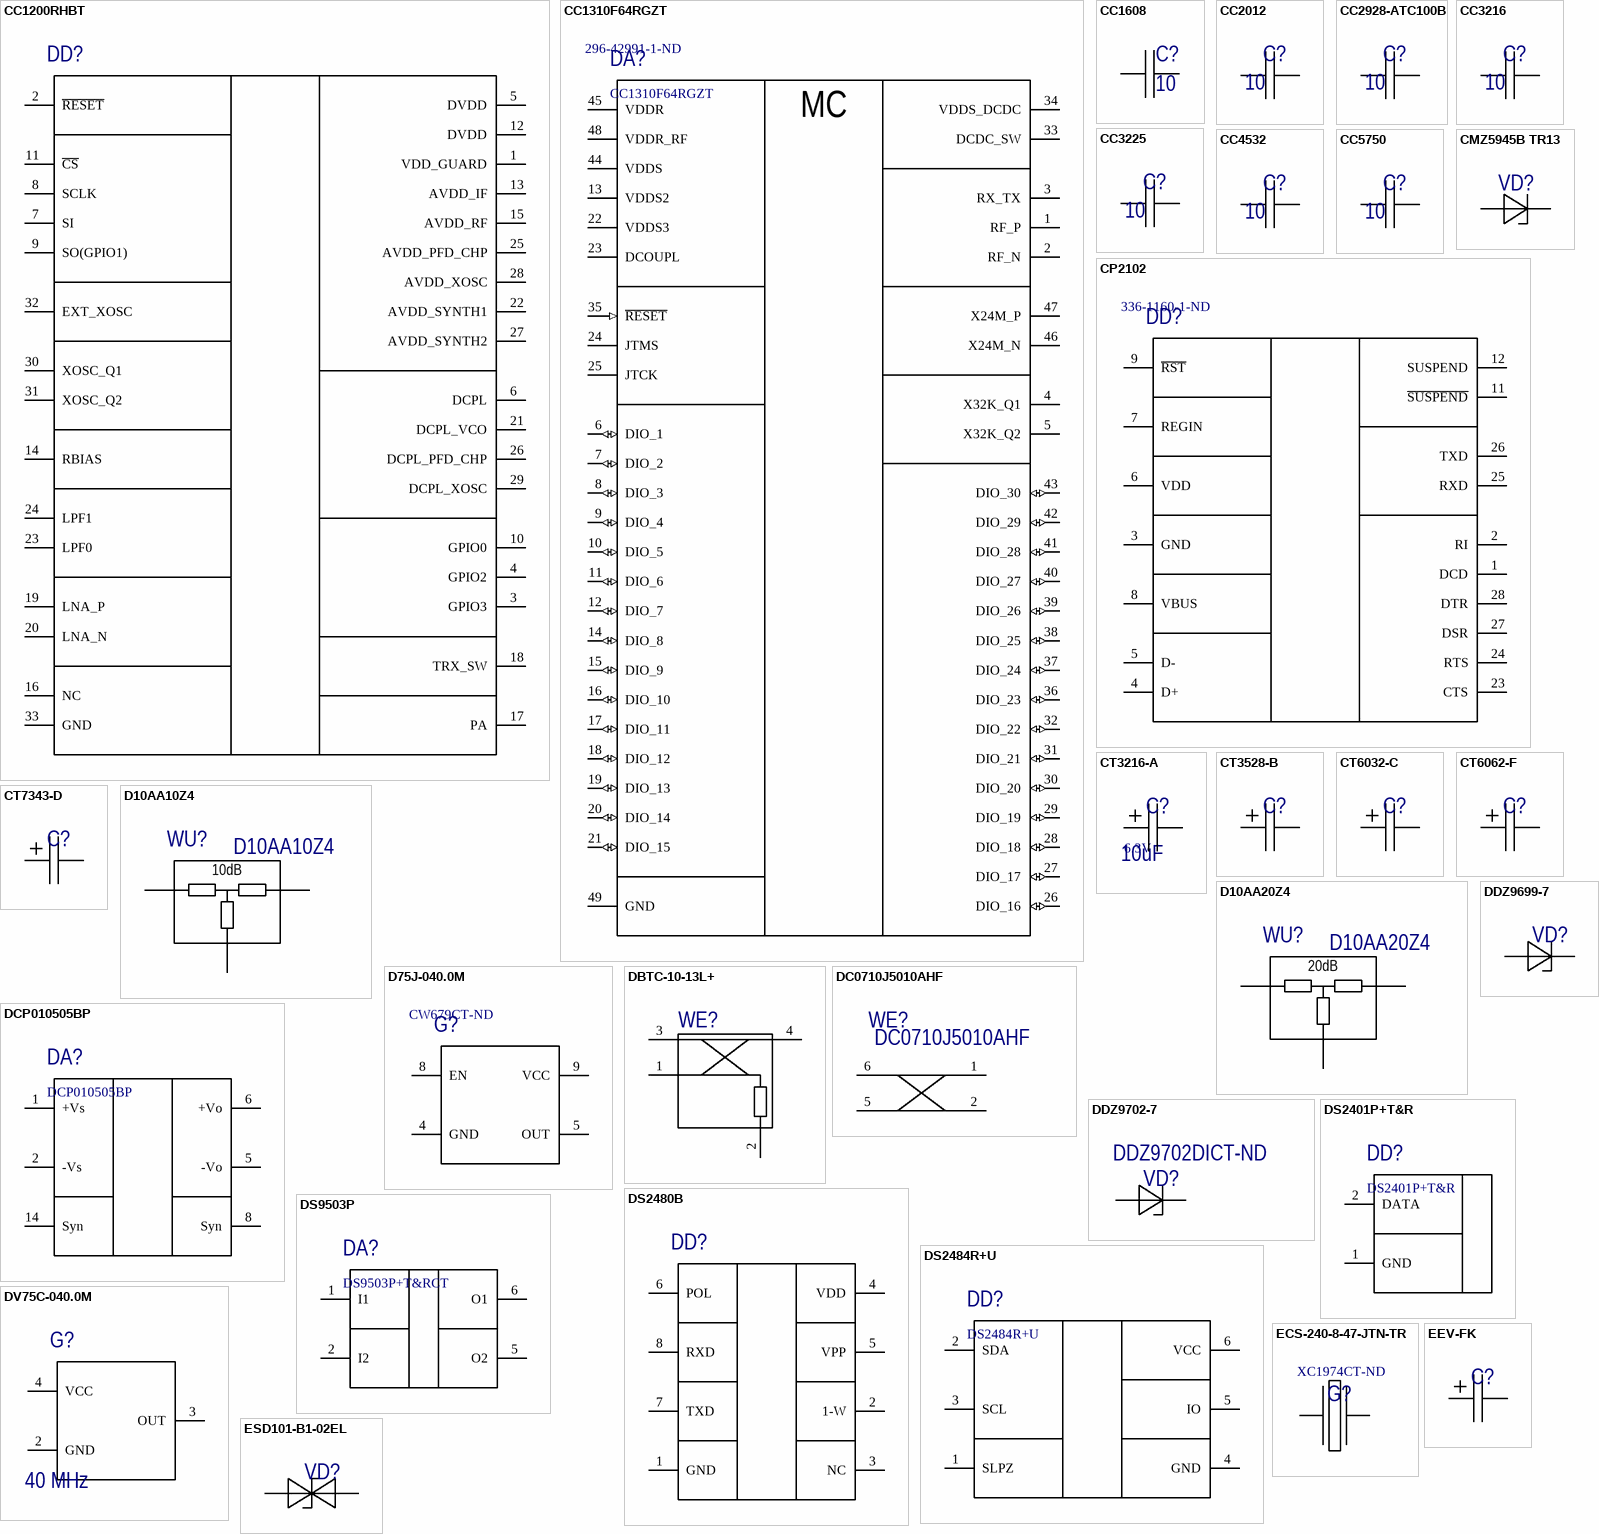
[diagram p3: symbols CC1200RHBT to ESD101-B1-02EL]

## CC1200RHBT
designator DD?  (value not drawn)
Трансивер; PartNo: CC1200RHBT; Supplier 1: Digi-Key; Supplier Part Number 1: 296-36396-1-ND
footprint S-PVQFN-N32 (QFN, 32-Leads, Body 5,00x5,00mm, Pitch 0,50mm, Thermal Pad 3,45x3,45mm, IPC Medium Density)
pins: 1 VDD_GUARD (power), 2 ~{RESET}, 3 GPIO3, 4 GPIO2, 5 DVDD (power), 6 DCPL (power), 7 SI, 8 SCLK, 9 SO(GPIO1), 10 GPIO0, 11 ~{CS}, 12 DVDD (power), 13 AVDD_IF (power), 14 RBIAS, 15 AVDD_RF (power), 16 NC, 17 PA, 18 TRX_SW, 19 LNA_P, 20 LNA_N, 21 DCPL_VCO (power), 22 AVDD_SYNTH1 (power), 23 LPF0, 24 LPF1, 25 AVDD_PFD_CHP (power), 26 DCPL_PFD_CHP (power), 27 AVDD_SYNTH2 (power), 28 AVDD_XOSC (power), 29 DCPL_XOSC (power), 30 XOSC_Q1, 31 XOSC_Q2, 32 EXT_XOSC, 33 GND

## CC1310F64RGZT
designator DA?  Supplier Part Number 1: 296-42991-1-ND
PartNo: *; Supplier 1: Digi-Key
footprint S-PVQFN-N48
pins: 1 RF_P, 2 RF_N, 3 RX_TX, 4 X32K_Q1, 5 X32K_Q2, 6 DIO_1 (io), 7 DIO_2 (io), 8 DIO_3 (io), 9 DIO_4 (io), 10 DIO_5 (io), 11 DIO_6 (io), 12 DIO_7 (io), 13 VDDS2 (power), 14 DIO_8 (io), 15 DIO_9 (io), 16 DIO_10 (io), 17 DIO_11 (io), 18 DIO_12 (io), 19 DIO_13 (io), 20 DIO_14 (io), 21 DIO_15 (io), 22 VDDS3 (power), 23 DCOUPL (power), 24 JTMS, 25 JTCK, 26 DIO_16 (io), 27 DIO_17 (io), 28 DIO_18 (io), 29 DIO_19 (io), 30 DIO_20 (io), 31 DIO_21 (io), 32 DIO_22 (io), 33 DCDC_SW (power), 34 VDDS_DCDC (power), 35 ~{RESET} (in), 36 DIO_23 (io), 37 DIO_24 (io), 38 DIO_25 (io), 39 DIO_26 (io), 40 DIO_27 (io), 41 DIO_28 (io), 42 DIO_29 (io), 43 DIO_30 (io), 44 VDDS (power), 45 VDDR (power), 46 X24M_N, 47 X24M_P, 48 VDDR_RF (power), 49 GND (power)
text: MC

## CC1608
designator C?  value 10  (hidden comment: *)
Конденсатор 1.6x0.8 мм; Tolerance: ±5%; ТКЕ: X7R; РКД Наименование: CC1608M - NP0 - 50 V - 10 pF ±5%; Voltage: *; Type: *; PartNo: *; Supplier Part Number 1: *; Supplier 1: *; Manufacturer Part Number: *
footprint CAPC1608X09L (Chip Capacitor, 2-Leads, Body 1.60x0.80mm, IPC High Density)
footprint CAPC1608X05N (Chip Capacitor, 2-Leads, Body 1.60x0.80mm, IPC Medium Density)
pins: 1, 2

## CC2012
designator C?  value 10  (hidden comment: *)
Конденсатор 2.0x1.2 мм; Voltage: 50 V; РКД Наименование: CC2012M - NP0 - 50 V - 10 pF ±5%; Type: *; PartNo: *; Supplier Part Number 1: *; Supplier 1: *; Manufacturer Part Number: *
footprint CAPC2012X06N (Chip Capacitor, 2-Leads, Body 2.00x1.25mm, IPC Medium Density)
pins: 1, 2

## CC2928-ATC100B
designator C?  value 10  (hidden comment: *)
Конденсатор 2.9x2.8 мм; Voltage: *; Type: *; PartNo: *; Supplier Part Number 1: *; Supplier 1: *
footprint CAPC2928X29N-ATC100B (Chip Capacitor, 2-Leads, Body 2.92x2.79mm, IPC Medium Density)
pins: 1, 2

## CC3216
designator C?  value 10  (hidden comment: *)
Конденсатор 3.2x1.6 мм; Tolerance: ±5%; Voltage: *; Type: *; PartNo: *; Supplier Part Number 1: *; Supplier 1: *; РКД Наименование: *; Manufacturer Part Number: *
footprint CAPC3216X12L (Chip Capacitor, 2-Leads, Body 3.20x1.60mm, IPC High Density)
pins: 1, 2

## CC3225
designator C?  value 10  (hidden comment: *)
Конденсатор 3.2x2.5 мм; Voltage: *; Type: *; PartNo: *; Supplier Part Number 1: *; Supplier 1: *; Manufacturer Part Number: *
footprint CAPC3225X28N (Chip Capacitor, 2-Leads, Body 3.20x2.50mm, IPC Medium Density)
pins: 1, 2

## CC4532
designator C?  value 10  (hidden comment: *)
Конденсатор 4.5x3.2 мм; Voltage: *; Type: *; PartNo: *; Supplier Part Number 1: *; Supplier 1: *
footprint CAPC4532X25N (Chip Capacitor, 2-Leads, Body 4.50x3.20mm, IPC Medium Density)
pins: 1, 2

## CC5750
designator C?  value 10  (hidden comment: *)
Конденсатор 5.7x5.0 мм; Voltage: *; Type: *; PartNo: *; Supplier Part Number 1: *; Supplier 1: *
footprint CAPC5750X23N (Chip Capacitor, 2-Leads, Body 5.70x5.00mm, IPC Medium Density)
pins: 1, 2

## CMZ5945B TR13
designator VD?  (value not drawn)
DIODE ZENER 68V 1.5W SMA; Manufacturer: Central Semiconductor; Max Power Dissipation: 500mW; Impedance: 120R; Tolerance: 5%; Supplier 1: Digi-Key; Manufacturer Part Number: CMZ5945BTR13; Stock 1: 7178; Pricing 1: 1=0.49, 10=0.415, 25=0.3632, 100=0.3115, 250=0.27, 500=0.2284, 1000=0.1765, 2500=0.1609 (USD); Mount: Surface Mount; Case/Package: SMA; Min Operating Temperature: -65°C; Max Operating Temperature: 150°C; Packaging: Tape and Reel; Zener Voltage: 68V; Lead Free: Lead Free; Supplier Part Number 1: CMZ5945BTR13CT-ND
footprint DIOM4326X26N (Molded Diode, 2-Leads, Body 4,30x2,61mm, IPC Medium Density)
pins: 1, 2

## CP2102
designator DD?  Supplier Part Number 1: 336-1160-1-ND  (hidden comment: CP2102)
USB-UART Adapter; PartNo: *; Supplier 1: Digi-Key
pins: 1 DCD, 2 RI, 3 GND, 4 D+, 5 D-, 6 VDD, 7 REGIN, 8 VBUS, 9 ~{RST}, 11 ~{SUSPEND}, 12 SUSPEND, 23 CTS, 24 RTS, 25 RXD, 26 TXD, 27 DSR, 28 DTR

## CT3216-A
designator C?  value 10uF  Voltage: 6.3V  (hidden comment: *)
Tantalum Surface Mount Capacitor, Size A; Type: *; PartNo: *; Supplier Part Number 1: *; Supplier 1: *
footprint CAPMP3216X16N-A (Molded Capacitor, 2-Leads, Body 3.20x1.60mm, IPC Medium Density)
pins: 1, 2

## CT3528-B
designator C?  (value not drawn)
Tantalum Surface Mount Capacitor, Size B; Type: *; Value: *; Voltage: *; PartNo: *; Supplier Part Number 1: *; Supplier 1: *
footprint CAPMP3528X19N-B (Molded Capacitor, 2-Leads, Body 3.50x2.80mm, IPC Medium Density)
pins: 1, 2

## CT6032-C
designator C?  (value not drawn)
Tantalum Surface Mount Capacitor, Size C; Type: *; Value: *; Voltage: *; PartNo: *; Supplier Part Number 1: *; Supplier 1: *
footprint CAPMP6032X25N-C (Molded Capacitor, 2-Leads, Body 6.00x3.20mm, IPC Medium Density)
pins: 1, 2

## CT6062-F
designator C?  (value not drawn)
Tantalum Surface Mount Capacitor, Size F; Type: *; Value: *; Voltage: *; PartNo: *; Supplier Part Number 1: *; Supplier 1: *
footprint CAPMP6062X47N-F (Molded Capacitor, 2-Leads, Body 6.00x6.20mm, IPC Medium Density)
pins: 1, 2

## CT7343-D
designator C?  (value not drawn)
Tantalum Surface Mount Capacitor, Size D; Type: *; Value: *; Voltage: *; PartNo: *; Supplier Part Number 1: *; Supplier 1: *
footprint CAPMP7343X28N-D (Molded Capacitor, 2-Leads, Body 7.30x4.30mm, IPC Medium Density)
pins: 1, 2

## D10AA10Z4
designator WU?
Fixed attenuator 10 dB; PartNo: D10AA10Z4
footprint D10AAXXZ4 (Anaren D10AA Attenuator)
pins: 1 IO, 2 IO, 3 IO
text: 10dB

## D10AA20Z4
designator WU?
Fixed attenuator 20 dB; PartNo: D10AA20Z4
footprint D10AAXXZ4 (Anaren D10AA Attenuator)
pins: 1 IO, 2 IO, 3 IO
text: 20dB

## D75J-040.0M
designator G?  Supplier Part Number 1: CW679CT-ND  (hidden comment: D75J-040.0M)
TCXO 40 MHz; PartNo: *; Supplier 1: Digi-Key
footprint D75J
pins: 4 GND, 5 OUT, 8 EN, 9 VCC

## DBTC-10-13L+
designator WE?  (value not drawn)
Directional Coupler 10dB, 5-1000 MHz; PartNo: DBTC-10-13+
footprint DBTC-10-13L+ (Directional Coupler)
pins: 1 Coupled, 2 Ground, 3 Input, 4 Output

## DC0710J5010AHF
designator WE?
Dirictional Coupler 10dB, 700-1000 MHz; Supplier 1: Digi-Key; PartNo: DC0710J5010AHF; Supplier Part Number 1: 1173-1084-1-ND
footprint DC0710J5010AHF (Directional Coupler)
pins: 1 Dir, 2 Iso, 5 Cou, 6 Inp

## DCP010505BP
designator DA?
DC-DC 5V - 5V; PartNo: DCP010505BP; Supplier 1: Digi-Key; Supplier Part Number 1: DCP010505BP-ND
footprint DCP01
pins: 1 +Vs, 2 -Vs, 5 -Vo, 6 +Vo, 8 Syn, 14 Syn

## DDZ9699-7
designator VD?  (value not drawn)
DIODE ZENER 12V 500MW SOD123; Manufacturer: Diodes; Max Reverse Leakage Current: 50nA; Element Configuration: Single; Tolerance: 5%; Forward Voltage: 900mV; Test Current: 50uA; Output Current: 40mA; ESD Protection: No; Supplier 1: Digi-Key; Manufacturer Part Number: DDZ9699-7; Stock 1: 110451; Pricing 1: 1=0.31, 10=0.255, 100=0.135, 500=0.0888, 1000=0.0604 (USD); Mount: Surface Mount; Case/Package: SOD-123-2; Number of Pins: 2; Weight: 0.000353oz; Contact Plating: Matte,Tin; Min Operating Temperature: -65°C; Max Operating Temperature: 150°C; Max Power Dissipation: 500mW; Zener Voltage: 12V; Packaging: Tape and Reel; Package Quantity: 3000; Voltage Tolerance: 5%; Zener Current: 50nA; Power Dissipation: 500mW; Working Voltage: 12V; Peak Reverse Current: 50nA; Termination: SMD/SMT; Power Rating: 500mW; Voltage Rating (DC): 12V; Length: 3.85mm; Height: 1.35mm; Width: 1.7mm; Radiation Hardening: No; REACH SVHC: No SVHC; Lead Free: Lead Free; ComponentLink1URL: http://www.diodes.com///datasheets/ds30410.pdf?src-supplier=Avnet; ComponentLink1Description: http://www.diodes.com///datasheets/ds30410.pdf?src-supplier=Avnet; ComponentLink2URL: https://www.verical.com/server-webapp/html/getDatasheet?partID=91063&src-supplier=Verical; ComponentLink2Description: https://www.verical.com/server-webapp/html/getDatasheet?partID=91063&src-supplier=Verical; Supplier Part Number 1: DDZ9699DICT-ND
footprint SOD123 (Diode 2.7x1.55 mm)
pins: 1, 2

## DDZ9702-7
designator VD?  Supplier Part Number 1: DDZ9702DICT-ND  (hidden comment: DDZ9702-7)
DIODE ZENER 12V 500MW SOD123; Manufacturer: Diodes; Zener Voltage: 15V; Max Reverse Leakage Current: 50nA; Element Configuration: Single; Forward Voltage: 900mV; Tolerance: 5%; Test Current: 50uA; Output Current: 40mA; ESD Protection: No; Supplier 1: Digi-Key; Manufacturer Part Number: DDZ9702-7; Stock 1: 49470; Pricing 1: 1=0.34, 10=0.28, 100=0.1485, 500=0.0977, 1000=0.0665 (USD); Mount: Surface Mount; Case/Package: SOD-123-2; Number of Pins: 2; Weight: 0.000353oz; Contact Plating: Tin,Matte; Min Operating Temperature: -65°C; Max Operating Temperature: 150°C; Max Power Dissipation: 500mW; Packaging: Tape and Reel; Package Quantity: 3000; Voltage Tolerance: 5%; Zener Current: 50nA; Power Dissipation: 500mW; Working Voltage: 15V; Peak Reverse Current: 50nA; Termination: SMD/SMT; Power Rating: 500mW; Voltage Rating (DC): 15V; Length: 3.85mm; Height: 1.35mm; Width: 1.7mm; Lead Free: Lead Free
footprint SOD123 (Diode 2.7x1.55 mm)
pins: 1, 2

## DS2401P+T&R
designator DD?
Silicon Serial Number; PartNo: DS2401P+T&R; Digikey: *; Supplier 1: Digi-Key; Supplier Part Number 1: DS2401P+CT-ND
footprint TSOC-6 (Maxim Intergrated)
pins: 1 GND (power), 2 DATA

## DS2480B
designator DD?, comment DS2480B+T&R  (value not drawn)
UART to 1-Wire converter; PartNo: DS2480B+T&R; Supplier 1: Digi-Key; Supplier Part Number 1: DS2480B+T&RCT-ND
footprint SOIC127P600X175-8N (Footprint not found)
pins: 1 GND, 2 1-W, 3 NC, 4 VDD, 5 VPP, 6 POL, 7 TXD, 8 RXD

## DS2484R+U
designator DD?
1-Wire Master; PartNo: DS2484R+U; Supplier 1: Digi-Key; Supplier Part Number 1: DS2484R+U-ND
footprint SOT95P280X145-6N (SOT23, 6-Leads, Body 2.90x2.80mm, Pitch 0.95mm, IPC Medium Density)
pins: 1 SLPZ, 2 SDA, 3 SCL, 4 GND, 5 IO, 6 VCC

## DS9503P
designator DA?, comment DS9503P+T&RCT
1-Wire protection IC; PartNo: DS9503P+T&RCT; Supplier 1: Digi-Key; Supplier Part Number 1: DS9503P+T&RCT-ND
footprint TSOC-6 (Maxim Intergrated)
pins: 1 I1, 2 I2, 5 O2, 6 O1

## DV75C-040.0M
designator G?  value 40 MHz  (hidden comment: DV75C-040.0M)
TCXO 40 MHz; PartNo: DV75C-040.0M; Supplier 1: Digi-Key; Supplier Part Number 1: CW886CT-ND
footprint DV75C (TCXO)
pins: 2 GND, 3 OUT, 4 VCC

## ECS-240-8-47-JTN-TR
designator G?  Supplier Part Number 1: XC1974CT-ND  (hidden comment: ECS-240-8-47-JTN-TR)
Кварц 24 МГц; PartNo: *; Supplier 1: Digi-Key
footprint ECS-240-8-47-JTN
pins: 1, 2

## EEV-FK
designator C?  (value not drawn)
Aluminum Electrolytic Capacitor; Type: *; Value: *; Voltage: *; PartNo: *; Supplier Part Number 1: *; Supplier 1: *
footprint EEV-FK Size H13 (EEV Aluminum Electrolytic Capacitor)
pins: 1, 2

## ESD101-B1-02EL
designator VD?  (value not drawn)
RF TVS, 5.5V, 0.1pF; РКД Наименование: ESD101-B1-02EL диод защитный СВЧ; PartNo: ESD101-B1-02EL; Supplier 1: Digi-Key; Supplier Part Number 1: ESD101B102ELE6327XTMA1CT-ND; Voltage: 5.5V
footprint TSLP-2-20-N (DFN, 2-Leads, Body 0,60x1,00mm, Pitch 0,65mm, IPC Medium Density)
pins: 1, 2

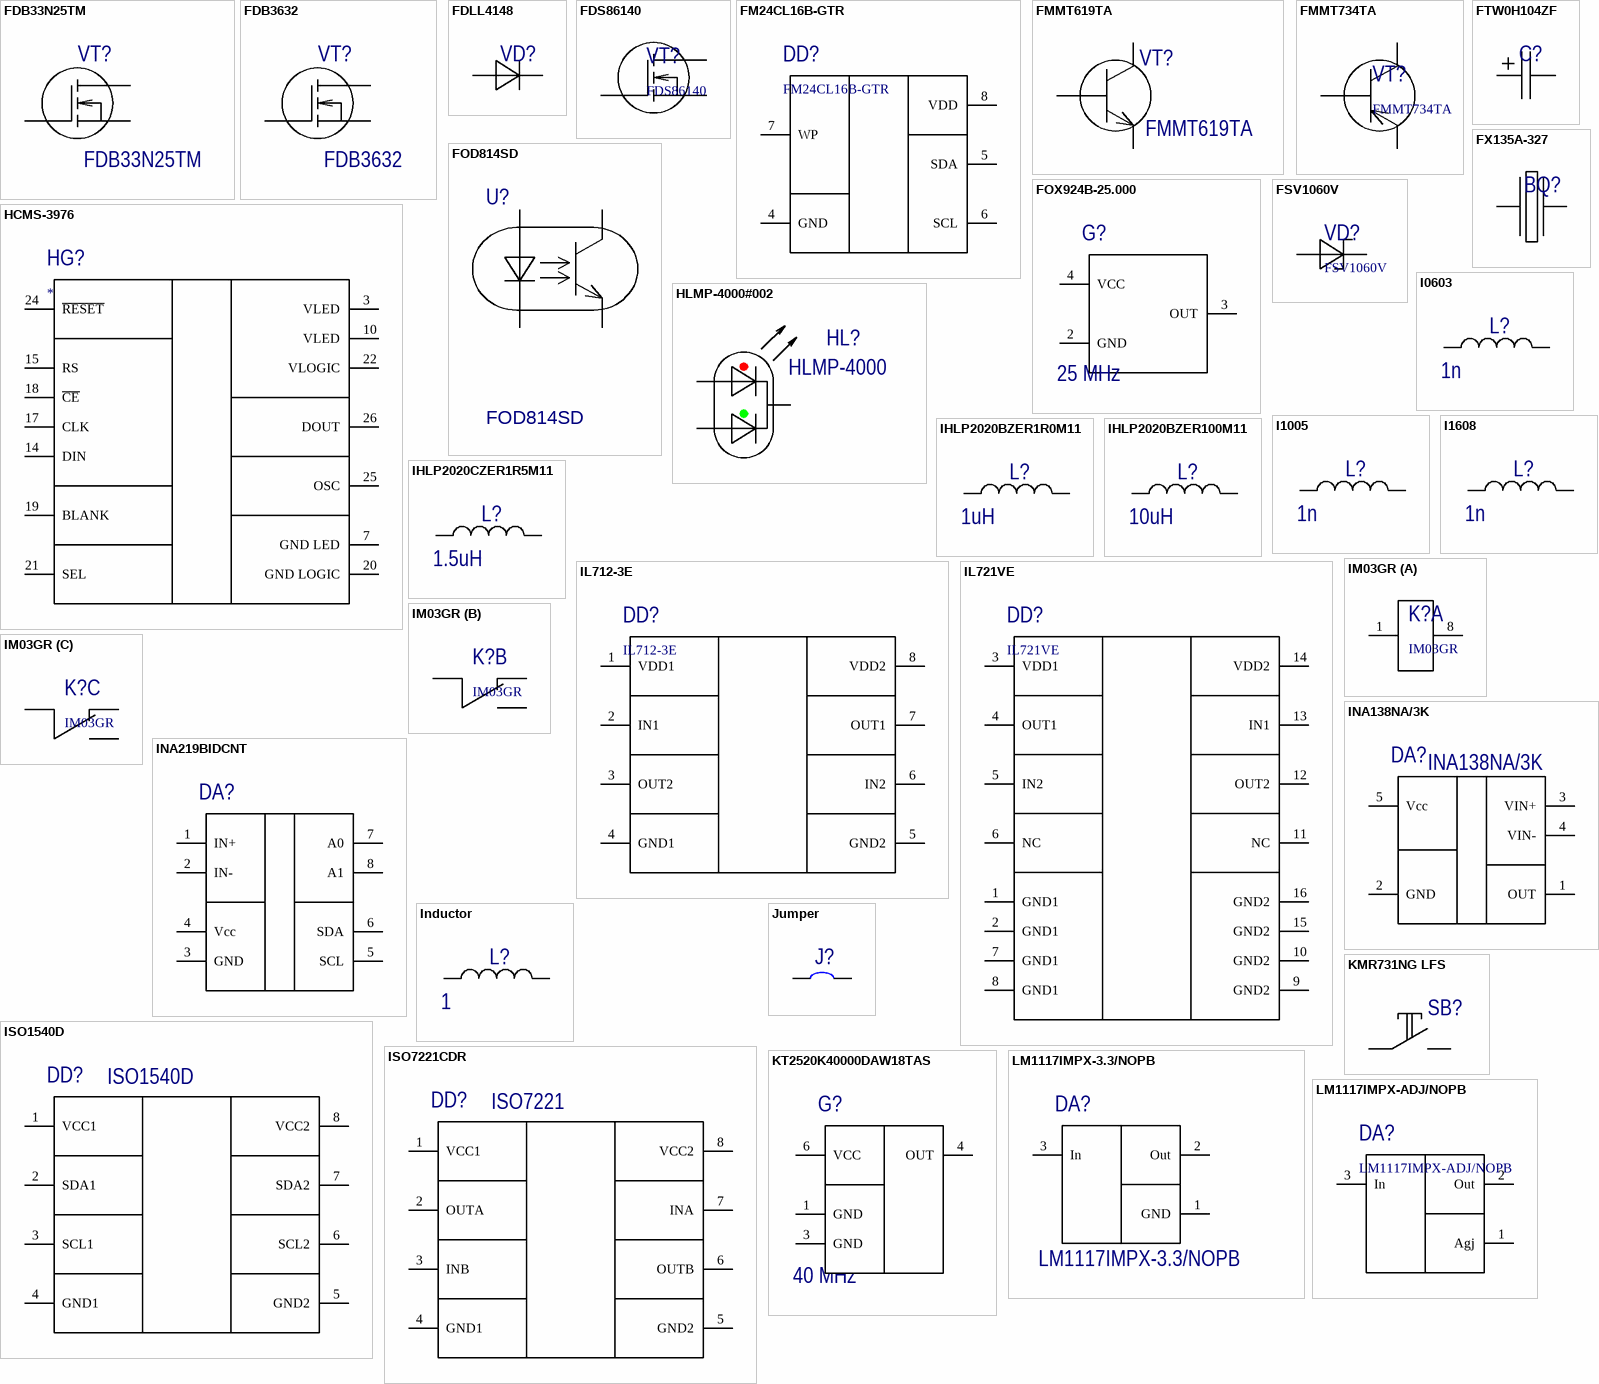
[diagram p4: symbols FDB33N25TM to LM1117IMPX-ADJ/NOPB]

## FDB33N25TM
designator VT?
MOSFET N-CH 250V 33A D2PAK; Manufacturer: ON Semiconductor / Fairchild; Rise Time: 230ns; Fall Time: 120ns; Turn-Off Delay Time: 75ns; Turn-On Delay Time: 35ns; Gate to Source Voltage (Vgs): 30V; Rds On Max: 94mR; Input Capacitance: 2.135nF; Max Power Dissipation: 235W; Number of Elements: 1; Nominal Vgs: 3V; Element Configuration: Single; Supplier 1: Digi-Key; Manufacturer Part Number: FDB33N25TM; Stock 1: 11796; Pricing 1: 1=2.5, 10=2.255, 100=1.8117 (USD); Mount: Surface Mount; Case/Package: D2PAK; Number of Pins: 3; Weight: 1.31247g; Contact Plating: Tin,Matte; Min Operating Temperature: -55°C; Max Operating Temperature: 150°C; Continuous Drain Current (ID): 33A; Packaging: Tape and Reel; Package Quantity: 800; Drain to Source Voltage (Vdss): 250V; Drain to Source Breakdown Voltage: 250V; Power Dissipation: 235W; Drain to Source Resistance: 94mR; Threshold Voltage: 3V; On-State Resistance: 94MR; Length: 10.67mm; Height: 4.83mm; Width: 11.33mm; Radiation Hardening: No; REACH SVHC: No SVHC; Lead Free: Lead Free; ComponentLink1URL: https://www.fairchildsemi.com/datasheets/FD/FDB33N25.pdf?src-supplier=Avnet; ComponentLink1Description: https://www.fairchildsemi.com/datasheets/FD/FDB33N25.pdf?src-supplier=Avnet; ComponentLink2URL: https://www.fairchildsemi.com/datasheets/FD/FDB33N25.pdf?src-supplier=Digi-Key; ComponentLink2Description: https://www.fairchildsemi.com/datasheets/FD/FDB33N25.pdf?src-supplier=Digi-Key; ComponentLink3URL: http://www.fairchildsemi.com/datasheets/FD/FDB33N25.pdf?src-supplier=Digi-Key; ComponentLink3Description: http://www.fairchildsemi.com/datasheets/FD/FDB33N25.pdf?src-supplier=Digi-Key; ComponentLink4URL: http://www.farnell.com/datasheets/1781196.pdf?src-supplier=Element14; ComponentLink4Description: http://www.farnell.com/datasheets/1781196.pdf?src-supplier=Element14; ComponentLink5URL: https://www.fairchildsemi.com/datasheets/FD/FDB33N25.pdf?src-supplier=Avnet+Europe; ComponentLink5Description: https://www.fairchildsemi.com/datasheets/FD/FDB33N25.pdf?src-supplier=Avnet+Europe; Supplier Part Number 1: FDB33N25TMCT-ND
footprint DPAK254P1524X483-3N (D2-PAK, 3-Pads, Body 7,93x8,70mm (max), IPC Medium Density)
pins: 1 G, 3 S, 4 D
1 alternate drawing of the same symbol

## FDB3632
designator VT?
Trans MOSFET N-CH 100V 12A 3-Pin(2+Tab) TO-263AB T/R; Manufacturer: ON Semiconductor / Fairchild; Rise Time: 39ns; Continuous Drain Current (ID): 80A; Fall Time: 46ns; Power Dissipation: 310W; Drain to Source Resistance: 7.5mR; Element Configuration: Single; Rds On Max: 9mR; Input Capacitance: 6nF; Turn-Off Delay Time: 96ns; Gate to Source Voltage (Vgs): 20V; Turn-On Delay Time: 30ns; Number of Elements: 1; Threshold Voltage: 4V; Current Rating: 44A; Supplier 1: Digi-Key; Manufacturer Part Number: FDB3632; Stock 1: 16721; Pricing 1: 1=3.47, 10=3.095, 100=2.5375 (USD); Mount: Surface Mount; Case/Package: TO-263-3; Number of Pins: 3; Weight: 1.31247g; Contact Plating: Tin,Matte; Min Operating Temperature: -55°C; Max Operating Temperature: 175°C; Packaging: Tape and Reel; Drain to Source Breakdown Voltage: 100V; Package Quantity: 1; Max Power Dissipation: 310W; Drain to Source Voltage (Vdss): 100V; Voltage Rating (DC): 100V; On-State Resistance: 9MR; Nominal Vgs: 4V; Dual Supply Voltage: 100V; Termination: SMD/SMT; Length: 10.67mm; Height: 4.83mm; Width: 9.65mm; Radiation Hardening: No; REACH SVHC: No SVHC; Lead Free: Lead Free; ComponentLink1URL: http://www.jameco.com/Jameco/Products/ProdDS/1221981.pdf?src-supplier=Jameco; ComponentLink1Description: http://www.jameco.com/Jameco/Products/ProdDS/1221981.pdf?src-supplier=Jameco; ComponentLink2URL: https://www.fairchildsemi.com/datasheets/FD/FDP3632.pdf?src-supplier=Avnet; ComponentLink2Description: https://www.fairchildsemi.com/datasheets/FD/FDP3632.pdf?src-supplier=Avnet; ComponentLink3URL: http://www.farnell.com/datasheets/1774674.pdf?src-supplier=Element14; ComponentLink3Description: http://www.farnell.com/datasheets/1774674.pdf?src-supplier=Element14; ComponentLink4URL: https://www.fairchildsemi.com/datasheets/FD/FDB3632.pdf?src-supplier=Digi-Key; ComponentLink4Description: https://www.fairchildsemi.com/datasheets/FD/FDB3632.pdf?src-supplier=Digi-Key; ComponentLink5URL: http://www.fairchildsemi.com/datasheets/FD/FDB3632.pdf?src-supplier=Digi-Key; ComponentLink5Description: http://www.fairchildsemi.com/datasheets/FD/FDB3632.pdf?src-supplier=Digi-Key; ComponentLink6URL: http://www.fairchildsemi.com/ds/FD/FDP3632.pdf?src-supplier=Avnet+Europe; ComponentLink6Description: http://www.fairchildsemi.com/ds/FD/FDP3632.pdf?src-supplier=Avnet+Europe; Supplier Part Number 1: FDB3632CT-ND
footprint DPAK254P1524X483-3N (D2-PAK, 3-Pads, Body 7,93x8,70mm (max), IPC Medium Density)
pins: 1 G, 3 S, 4 D
1 alternate drawing of the same symbol

## FDLL4148
designator VD?  (value not drawn)
DIODE GEN PURP 100V 200MA LL34; Manufacturer: ON Semiconductor / Fairchild; Peak Reverse Current: 5uA; Reverse Recovery Time: 4ns; Max Forward Surge Current (Ifsm): 4A; Element Configuration: Single; Forward Voltage: 1V; Power Dissipation: 500mW; Polarity: Standard; Capacitance: 4pF; Supplier 1: Digi-Key; Manufacturer Part Number: FDLL4148; Stock 1: 868505; Pricing 1: 1=0.1, 10=0.085, 100=0.0464, 500=0.0286, 1000=0.0195 (USD); Mount: Surface Mount; Number of Pins: 34; Weight: 0.05184g; Contact Plating: Tin,Matte; Min Operating Temperature: -65°C; Max Operating Temperature: 175°C; Packaging: Tape and Reel; Forward Current: 200mA; Package Quantity: 1; Max Repetitive Reverse Voltage (Vrrm): 100V; Max Surge Current: 4A; Recovery Time: 4ns; Average Rectified Current: 200mA; Peak Non-Repetitive Surge Current: 4A; Voltage Rating (DC): 100V; Output Current: 200mA; Reverse Voltage: 100V; Max Reverse Voltage (DC): 100V; Current Rating: 200mA; Length: 3.6mm; Height: 1.5mm; Width: 1.5mm; Radiation Hardening: No; REACH SVHC: No SVHC; Lead Free: Lead Free; ComponentLink1URL: https://www.fairchildsemi.com/datasheets/FD/FDLL4148.pdf?src-supplier=Jameco; ComponentLink1Description: https://www.fairchildsemi.com/datasheets/FD/FDLL4148.pdf?src-supplier=Jameco; ComponentLink2URL: http://www.farnell.com/datasheets/30071.pdf?src-supplier=Element14; ComponentLink2Description: http://www.farnell.com/datasheets/30071.pdf?src-supplier=Element14; ComponentLink3URL: http://www.farnell.com/datasheets/1934602.pdf?src-supplier=Element14; ComponentLink3Description: http://www.farnell.com/datasheets/1934602.pdf?src-supplier=Element14; ComponentLink4URL: http://www.farnell.com/datasheets/1716967.pdf?src-supplier=Element14; ComponentLink4Description: http://www.farnell.com/datasheets/1716967.pdf?src-supplier=Element14; ComponentLink5URL: https://www.fairchildsemi.com/datasheets/FD/FDLL4148.pdf?src-supplier=Digi-Key; ComponentLink5Description: https://www.fairchildsemi.com/datasheets/FD/FDLL4148.pdf?src-supplier=Digi-Key; ComponentLink6URL: https://www.onsemi.com/pub/Collateral/1N914-D.PDF?src-supplier=Digi-Key; ComponentLink6Description: https://www.onsemi.com/pub/Collateral/1N914-D.PDF?src-supplier=Digi-Key; ComponentLink7URL: https://www.fairchildsemi.com/datasheets/FD/FDLL4148.pdf?src-supplier=Avnet; ComponentLink7Description: https://www.fairchildsemi.com/datasheets/FD/FDLL4148.pdf?src-supplier=Avnet; Supplier Part Number 1: FDLL4148CT-ND
footprint SOD-80 (MELF Diode, 2-Leads, Body 3.45x1.40mm, IPC Medium Density); pin to pad A>2 C>1
pins: A, C

## FDS86140
designator VT?
MOSFET N-channel; PartNo: FDS86140; Supplier 1: Digi-Key; Supplier Part Number 1: FDS86140CT-ND
footprint SOIC127P600X175-8N-MOSFET (Footprint not found)
pins: 1 G, 2 S, 3 D
1 alternate drawing of the same symbol

## FM24CL16B-GTR
designator DD?
16-Kbit Serial FRAM; PartNo: FM24CL16B-GTR; Digikey: *; Supplier 1: Digi-Key; Supplier Part Number 1: 428-3310-1-ND
footprint SOIC127P600X175-8N (SOIC, 8-Leads, Body 4.90x3.90mm, Pitch 1.27mm, IPC Medium Density)
pins: 1 NC hidden, 2 NC hidden, 3 NC hidden, 4 GND (power), 5 SDA, 6 SCL, 7 WP, 8 VDD (power)

## FMMT619TA
designator VT?
TRANS NPN 50V 2A SOT23-3; Manufacturer: Diodes Zetex; Max Power Dissipation: 625mW; Number of Elements: 1; Frequency: 165MHz; hFE Min: 300; Emitter Base Voltage (VEBO): 5V; Collector Emitter Saturation Voltage: 150mV; Turn-Off Delay Time: 750ns; Turn-On Delay Time: 170ns; Element Configuration: Single; Supplier 1: Digi-Key; Manufacturer Part Number: FMMT619TA; Stock 1: 108690; Pricing 1: 1=0.55, 10=0.467, 100=0.349, 500=0.2742, 1000=0.2119 (USD); Mount: Surface Mount; Case/Package: SOT-23; Number of Pins: 3; Weight: 0.000282oz; Contact Plating: Matte,Tin; Min Operating Temperature: -55°C; Max Operating Temperature: 150°C; Package Quantity: 3000; Packaging: Tape and Reel; Collector Emitter Voltage (VCEO): 50V; Max Collector Current: 2A; Transition Frequency: 165MHz; Collector Emitter Breakdown Voltage: 50V; Max Breakdown Voltage: 50V; Polarity: NPN; Collector Base Voltage (VCBO): 50V; Continuous Collector Current: 2A; Power Dissipation: 625mW; Max Frequency: 165MHz; Termination: SMD/SMT; Gain Bandwidth Product: 165MHz; Voltage Rating (DC): 50V; Current Rating: 2A; Length: 3mm; Height: 1.1mm; Width: 1.4mm; Radiation Hardening: No; REACH SVHC: No SVHC; Lead Free: Lead Free; ComponentLink1URL: https://www.diodes.com/assets/Datasheets/FMMT619.pdf?src-supplier=Digi-Key; ComponentLink1Description: https://www.diodes.com/assets/Datasheets/FMMT619.pdf?src-supplier=Digi-Key; ComponentLink2URL: http://www.diodes.com/_files/datasheets/FMMT619.pdf?src-supplier=Future+Electronics; ComponentLink2Description: http://www.diodes.com/_files/datasheets/FMMT619.pdf?src-supplier=Future+Electronics; ComponentLink3URL: http://www.diodes.com/datasheets/FMMT619.pdf?src-supplier=Avnet; ComponentLink3Description: http://www.diodes.com/datasheets/FMMT619.pdf?src-supplier=Avnet; ComponentLink4URL: http://www.diodes.com/datasheets/FMMT619.pdf?src-supplier=Avnet+Europe; ComponentLink4Description: http://www.diodes.com/datasheets/FMMT619.pdf?src-supplier=Avnet+Europe; ComponentLink5URL: http://www.mouser.com/ds/2/115/FMMT619-58106.pdf?src-supplier=Mouser; ComponentLink5Description: http://www.mouser.com/ds/2/115/FMMT619-58106.pdf?src-supplier=Mouser; ComponentLink6URL: https://www.verical.com/server-webapp/html/getDatasheet?partID=40771&src-supplier=Verical; ComponentLink6Description: https://www.verical.com/server-webapp/html/getDatasheet?partID=40771&src-supplier=Verical; ComponentLink7URL: http://www.farnell.com/datasheets/313020.pdf?src-supplier=Farnell; ComponentLink7Description: http://www.farnell.com/datasheets/313020.pdf?src-supplier=Farnell; ComponentLink8URL: http://www.farnell.com/datasheets/302336.pdf?src-supplier=Element14; ComponentLink8Description: http://www.farnell.com/datasheets/302336.pdf?src-supplier=Element14; ComponentLink9URL: http://datasheet.iiic.cc/diodes_[zetex]/FMMT619TA.pdf?src-supplier=IIIC; ComponentLink9Description: http://datasheet.iiic.cc/diodes_[zetex]/FMMT619TA.pdf?src-supplier=IIIC; Supplier Part Number 1: FMMT619CT-ND
footprint SOT95P232X100-3N (SOT23, 3-Leads, Body 2.92x2.32mm, Pitch 0.95mm, IPC Medium Density)
pins: 1 B, 2 E, 3 C

## FMMT734TA
designator VT?
Transistor PNP Darlington; PartNo: FMMT734TA; Supplier 1: Digi-Key; Supplier Part Number 1: FMMT734CT-ND
footprint SOT95P232X100-3N (SOT23, 3-Leads, Body 2.92x2.32mm, Pitch 0.95mm, IPC Medium Density)
pins: 1 B, 2 E, 3 C

## FOD814SD
designator U?
Optocoupler; PartNo: FOD814SD; Supplier Part Number 1: FOD814SDCT-ND; Supplier 1: Digi-Key
pins: 1, 2, 7, 8

## FOX924B-25.000
designator G?  value 25 MHz  (hidden comment: FOX924B-25.000)
TCXO 25 MHz; PartNo: FOX924B-25.000; Supplier 1: Digi-Key; Supplier Part Number 1: 631-1074-1-ND
footprint FOX924 (Ultra Miniature SMD TCXO, 5x7mm)
pins: 2 GND, 3 OUT, 4 VCC

## FSV1060V
designator VD?
Диод Шоттки, 60 В, 10 А; Supplier 1: Digi-Key; PartNo: FSV1060V; Supplier Part Number 1: FSV1060VCT-ND
footprint TO-277
pins: 1, 2

## FTW0H104ZF
designator C?  (value not drawn)
Cap Supercap 0.1F 5.5V -20% to 80% Radial Aluminum Cylindrical Can 5.08mm 16 Ohm 85C Bulk; Manufacturer: KEMET; Capacitance: 100mF; ESR (Equivalent Series Resistance): 16R; Leakage Current: 150uA; Supplier 1: Digi-Key; Manufacturer Part Number: FTW0H104ZF; Stock 1: 1406; Pricing 1: 1=2.35, 10=1.898, 100=1.449, 500=1.104, 1000=0.966, 2500=0.9315, 5000=0.897 (USD); Mount: Through Hole; Case/Package: Radial; Min Operating Temperature: -40°C; Max Operating Temperature: 85°C; Voltage Rating: 5.5V; Tolerance: 80%; Packaging: Bulk; Voltage Rating (DC): 5.5V; Package Quantity: 1000; Termination: Radial; Voltage: 5.5V; Diameter: 11.5mm; Lead Pitch: 5.08mm; Height - Seated (Max): 0.335inch; Depth: 8.5mm; Radiation Hardening: No; REACH SVHC: No SVHC; ComponentLink1URL: http://uk.rs-online.com/webdocs/1528/0900766b81528bf6.pdf?src-supplier=RSComponents; ComponentLink1Description: http://uk.rs-online.com/webdocs/1528/0900766b81528bf6.pdf?src-supplier=RSComponents; ComponentLink2URL: http://www.farnell.com/datasheets/2024564.pdf?src-supplier=Element14; ComponentLink2Description: http://www.farnell.com/datasheets/2024564.pdf?src-supplier=Element14; ComponentLink3URL: https://api.kemet.com/component-edge/download/datasheet/FTW0H104ZF.pdf?src-supplier=Digi-Key; ComponentLink3Description: https://api.kemet.com/component-edge/download/datasheet/FTW0H104ZF.pdf?src-supplier=Digi-Key; ComponentLink4URL: http://www.kemet.com/Lists/ProductCatalog/Attachments/464/KEM_S6014_FT.pdf?src-supplier=Avnet; ComponentLink4Description: http://www.kemet.com/Lists/ProductCatalog/Attachments/464/KEM_S6014_FT.pdf?src-supplier=Avnet; Supplier Part Number 1: 399-10796-ND
footprint FTW0H104ZF (Supercapacitor)
pins: 1, 2

## FX135A-327
designator BQ?  (value not drawn)
Кварц 32.769 кГц; Value: 32.768 kHz; Supplier 1: Digi-Key; PartNo: FX135A-327; Supplier Part Number 1: 631-1002-1-ND
footprint FX135 (SMD 3.2x1.5mm Cristal)
pins: 1, 2

## HCMS-3976
designator HG?
AlphaNumeric Display; PartNo: *; Supplier 1: Digi-Key; Supplier Part Number 1: 516-3174-5-ND
footprint HCMS-3976
pins: 3 VLED, 7 GND LED, 10 VLED, 14 DIN, 15 RS, 17 CLK, 18 ~{CE}, 19 BLANK, 20 GND LOGIC, 21 SEL, 22 VLOGIC, 24 ~{RESET}, 25 OSC, 26 DOUT

## HLMP-4000#002
designator HL?, comment HLMP-4000
Светодиод двухцветный; PartNo: HLMP-4000#002; Digikey: *; Supplier 1: Digi-Key; Supplier Part Number 1: 516-3048-1-ND
footprint T1-3/4 (5 mm) (LED Throuh hole, 5mm dia)
pins: 1 Ar, 2 C, 3 Ag
1 alternate drawing of the same symbol

## I0603
designator L?  value 1n  (hidden comment: *)
Катушка 0.6x0.3 мм; РКД Наименование: CI0603M - 1 nH ±5%; Current: *; PartNo: *; Supplier 1: *; Supplier Part Number 1: *; Manufacturer Part Number: *
footprint INDC0603X03N (Chip Inductor, 2-Leads, Body 0.60x0.30mm, IPC Medium Density)
pins: 1, 2

## I1005
designator L?  value 1n  (hidden comment: *)
Катушка 1.0x0.5 мм; Tolerance: ±5%; РКД Наименование: CI1005M - 1 nH ±5%; Current: *; PartNo: *; Supplier 1: *; Supplier Part Number 1: *; Manufacturer Part Number: *
footprint INDC1005X06N (Chip Inductor, 2-Leads, Body 1.00x0.50mm, IPC Medium Density)
pins: 1, 2

## I1608
designator L?  value 1n  (hidden comment: *)
Катушка 1.6x0.8 мм; РКД Наименование: CI1608M - 1 nH ±5%; Current: *; PartNo: *; Supplier 1: *; Supplier Part Number 1: *; Manufacturer Part Number: *
footprint INDC1608X08N (Chip Inductor, 2-Leads, Body 1.60x0.80mm, IPC Medium Density)
footprint LQW18A (Footprint not found)
pins: 1, 2

## IHLP2020BZER1R0M11
designator L?  value 1uH  (hidden comment: IHLP2020BZER1R0M11)
1 uH Inductor Vishai; Current: *; PartNo: *; Supplier 1: Digi-Key; Supplier Part Number 1: 541-1218-1-ND
footprint IHLP2020BZ
pins: 1, 2

## IHLP2020BZER100M11
designator L?  value 10uH  (hidden comment: IHLP2020BZER100M11)
10 uH Inductor Vishai; Tolerance: ±5%; Current: *; PartNo: *; Supplier 1: Digi-Key; Supplier Part Number 1: 541-1225-1-ND
footprint IHLP2020BZ
pins: 1, 2